# Altium integrated library Wurth_Elektronik_Passive_rev16a.IntLib: 1143 symbols (part 7 of 28)
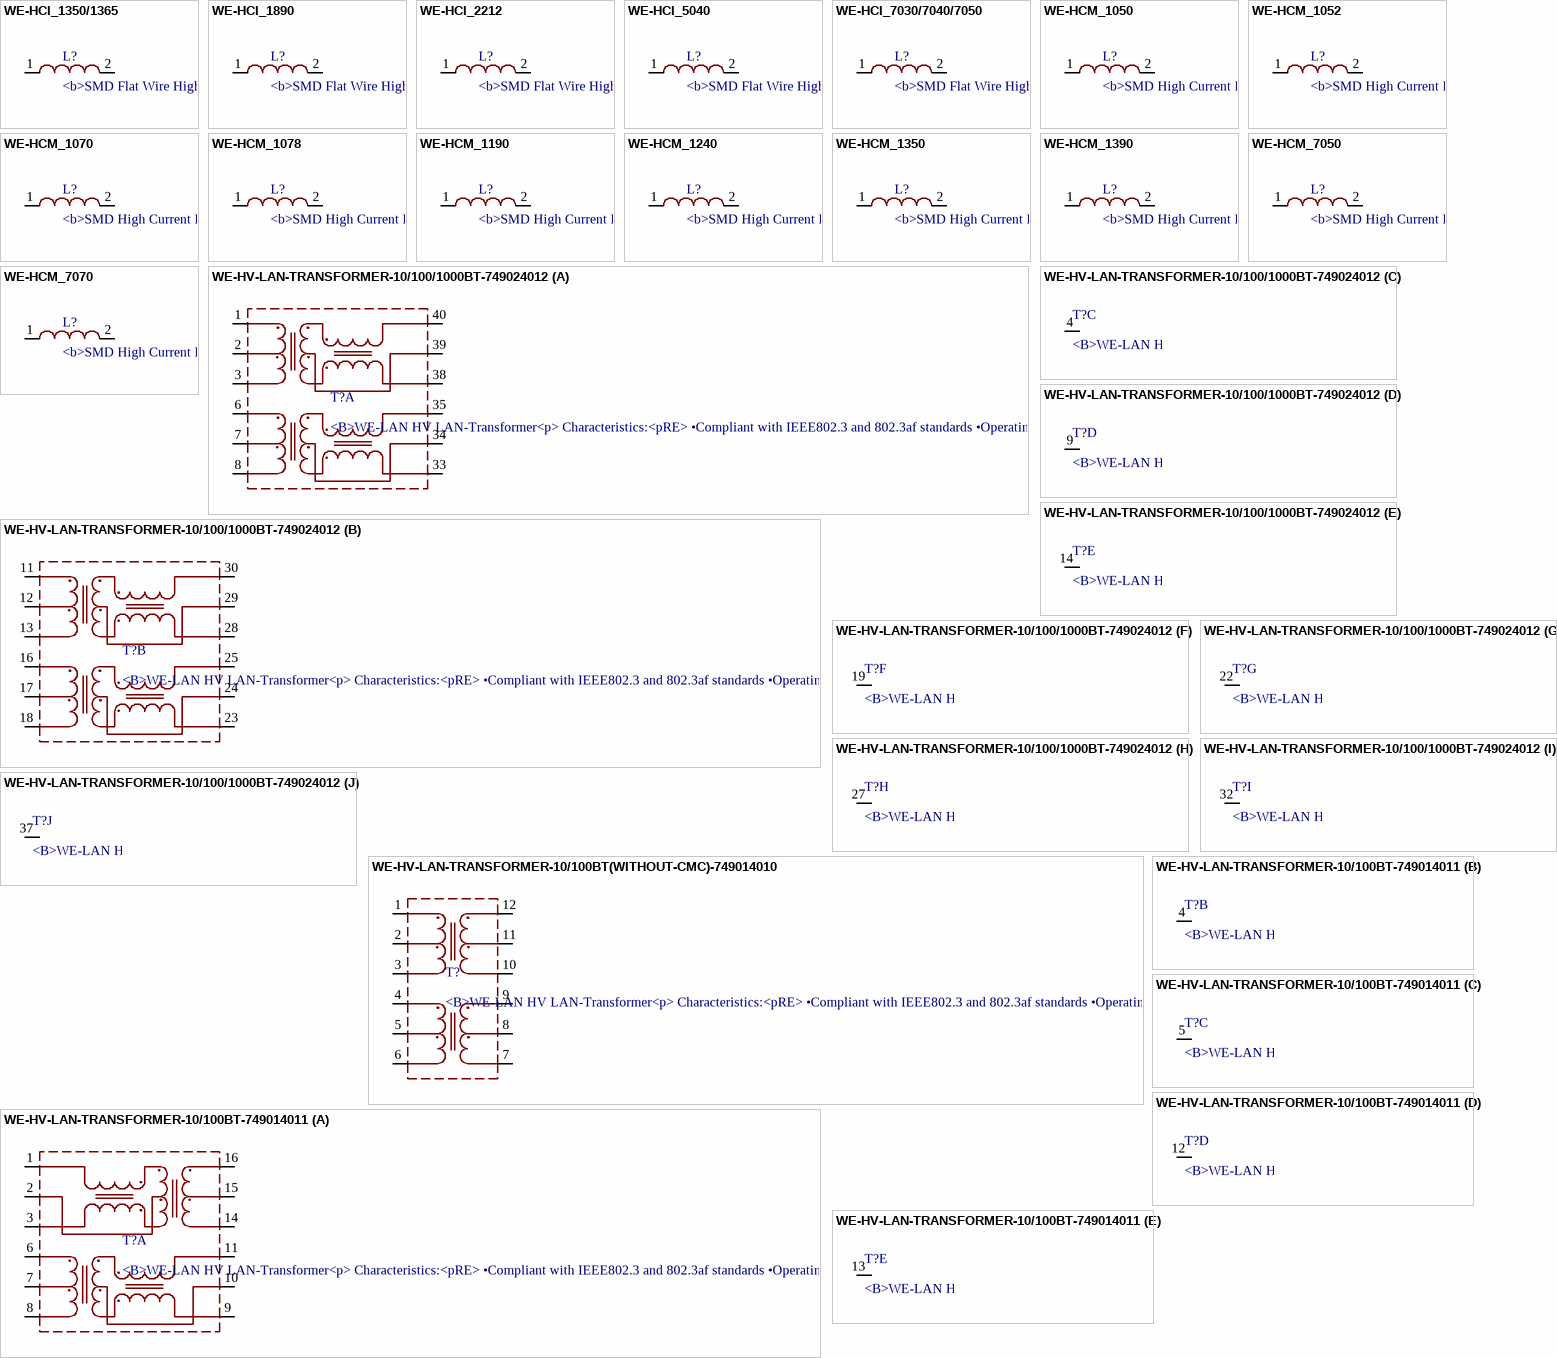
[diagram p64: symbols WE-HCI_1350/1365 to WE-HV-LAN-TRANSFORMER-10/100BT-749014011]

## WE-HCM_7070
designator L?, comment <b>SMD High Current Flat Wire Inductor / <br> / <br><b>Characteristics / <br> / <br></b></b> Lowest core losses (MnZn) / <br> / <br> High saturation current up to 81 A / <br> / <br> Extremly low RDC / <br> / <br> Magnetically shielded / <br> / <br> RDC tolerance ± 7% / <br> / <br> Operating temperature: –40 °C to +125 °C / <br> / <br><b>Applications / <br> / <br></b> Multiphase switching regulator / <br> / <br> CPU/RAM power supply / <br> / <br> Power PC / <br> / <br> Filter / <br> / <br> / <br><a href=http://katalog.we-online.de/media/images/eisos/IndHCM_pf2.jpg" title="Enlarge picture"> / <img src="http://katalog.we-online.de/media/images/eisos/IndHCM_pf2.jpg" width="320"></a><p> / Details see: <a href="http://katalog.we-online.de/en/pbs/WE-HCM?">http://katalog.we-online.de/en/pbs/WE-HCM?</a><p> / Updated by  Dan Xu 2014-07-07<br> / 2014 (C) Wurth Elektronik
footprint WE-HCM_7070
pins: 1, 2

## WE-HV-LAN-TRANSFORMER-10/100/1000BT-749024012
designator T?, comment <B>WE-LAN HV LAN-Transformer<p> / Characteristics:<pRE> / •Compliant with IEEE802.3 and 802.3af standards / •Operating temperature: 0 °C to +70 °C / •SMD / •4 kV Hipot test<PRE> / <B>Applications:<PRE></B> / •Ethernet / •Compliant with most IC's for Ethernet applications / like Intel, AMD, Conexant, Realtek, etc. / •Hub, Router, Switches, medical applications / <br><a href=http://katalog.we-online.de/media/images/eisos/UtLAN_pf2.jpg" title="Enlarge picture"> / <img src="http://katalog.we-online.de/media/images/eisos/UtLAN_pf2.jpg" width="320"></a><p> / Details see: <a href="http://katalog.we-online.de/en/pbs/WE-LAN/749024012?">http://katalog.we-online.de/en/pbs/WE-LAN/749024012?</a><p> / Updated by  Dan Xu 2014-07-08<br> / 2014 (C) Würth Elektronik
MANUFACTURER: Würth Elektronik eiSos GmbH; CREATED-BY: Christin Zierenner; COMPANY-URL: http://www.we-online.de; CREATED-DATE: July 2012; DATASHEET-URL: http://katalog.we-online.de/kataloge/eisos/media/pdf/749024012.pdf
footprint 749024012
part A pins: 1 D+, 2 TD, 3 D-, 6 D1+, 7 TD1, 8 D1-, 33 X1-, 34 TX1, 35 X1+, 38 X-, 39 TX, 40 X+
part B pins: 11 D+, 12 TD, 13 D-, 16 D1+, 17 TD1, 18 D1-, 23 X1-, 24 TX1, 25 X1+, 28 X-, 29 TX, 30 X+
part C pins: 4 NC
part D pins: 9 NC
part E pins: 14 NC
part F pins: 19 NC
part G pins: 22 NC
part H pins: 27 NC
part I pins: 32 NC
part J pins: 37 NC

## WE-HV-LAN-TRANSFORMER-10/100BT(WITHOUT-CMC)-749014010
designator T?, comment <B>WE-LAN HV LAN-Transformer<p> / Characteristics:<pRE> / •Compliant with IEEE802.3 and 802.3af standards / •Operating temperature: 0 °C to +70 °C / •SMD / •4 kV Hipot test<PRE> / <B>Applications:<PRE></B> / •Ethernet / •Compliant with most IC's for Ethernet applications / like Intel, AMD, Conexant, Realtek, etc. / •Hub, Router, Switches, medical applications / <br><a href=http://katalog.we-online.de/media/images/eisos/UtLAN_pf2.jpg" title="Enlarge picture"> / <img src="http://katalog.we-online.de/media/images/eisos/UtLAN_pf2.jpg" width="320"></a><p> / Details see: <a href="http://katalog.we-online.de/en/pbs/WE-LAN/749014010">http://katalog.we-online.de/en/pbs/WE-LAN/749014010?</a><p> / Updated by  Dan Xu 2014-07-08<br> / 2014 (C) Würth Elektronik
MANUFACTURER: Würth Elektronik eiSos GmbH; CREATED-BY: Christin Zierenner; COMPANY-URL: http://www.we-online.de; CREATED-DATE: July 2012; DATASHEET-URL: http://katalog.we-online.de/kataloge/eisos/media/pdf/749014010.pdf
footprint 749014010
pins: 1 D+, 2 TD, 3 D-, 4 D1+, 5 TD1, 6 D1-, 7 X1-, 8 TX1, 9 X1+, 10 X-, 11 TX, 12 X+

## WE-HV-LAN-TRANSFORMER-10/100BT-749014011
designator T?, comment <B>WE-LAN HV LAN-Transformer<p> / Characteristics:<pRE> / •Compliant with IEEE802.3 and 802.3af standards / •Operating temperature: 0 °C to +70 °C / •SMD / •4 kV Hipot test<PRE> / <B>Applications:<PRE></B> / •Ethernet / •Compliant with most IC's for Ethernet applications / like Intel, AMD, Conexant, Realtek, etc. / •Hub, Router, Switches, medical applications / <br><a href=http://katalog.we-online.de/media/images/eisos/UtLAN_pf2.jpg" title="Enlarge picture"> / <img src="http://katalog.we-online.de/media/images/eisos/UtLAN_pf2.jpg" width="320"></a><p> / Details see: <a href="http://katalog.we-online.de/en/pbs/WE-LAN/749014011">http://katalog.we-online.de/en/pbs/WE-LAN/749014011?</a><p> / Updated by  Dan Xu 2014-07-08<br> / 2014 (C) Würth Elektronik
MANUFACTURER: Würth Elektronik eiSos GmbH; CREATED-BY: Christin Zierenner; COMPANY-URL: http://www.we-online.de; CREATED-DATE: July 2012; DATASHEET-URL: http://katalog.we-online.de/kataloge/eisos/media/pdf/749014011.pdf
footprint 74901401X
part A pins: 1 RD+, 2 CRD, 3 RD-, 6 TD+, 7 CTD, 8 TD-, 9 TX-, 10 CTX, 11 TX+, 14 RX-, 15 CRX, 16 RX+
part B pins: 4 NC
part C pins: 5 NC
part D pins: 12 NC
part E pins: 13 NC

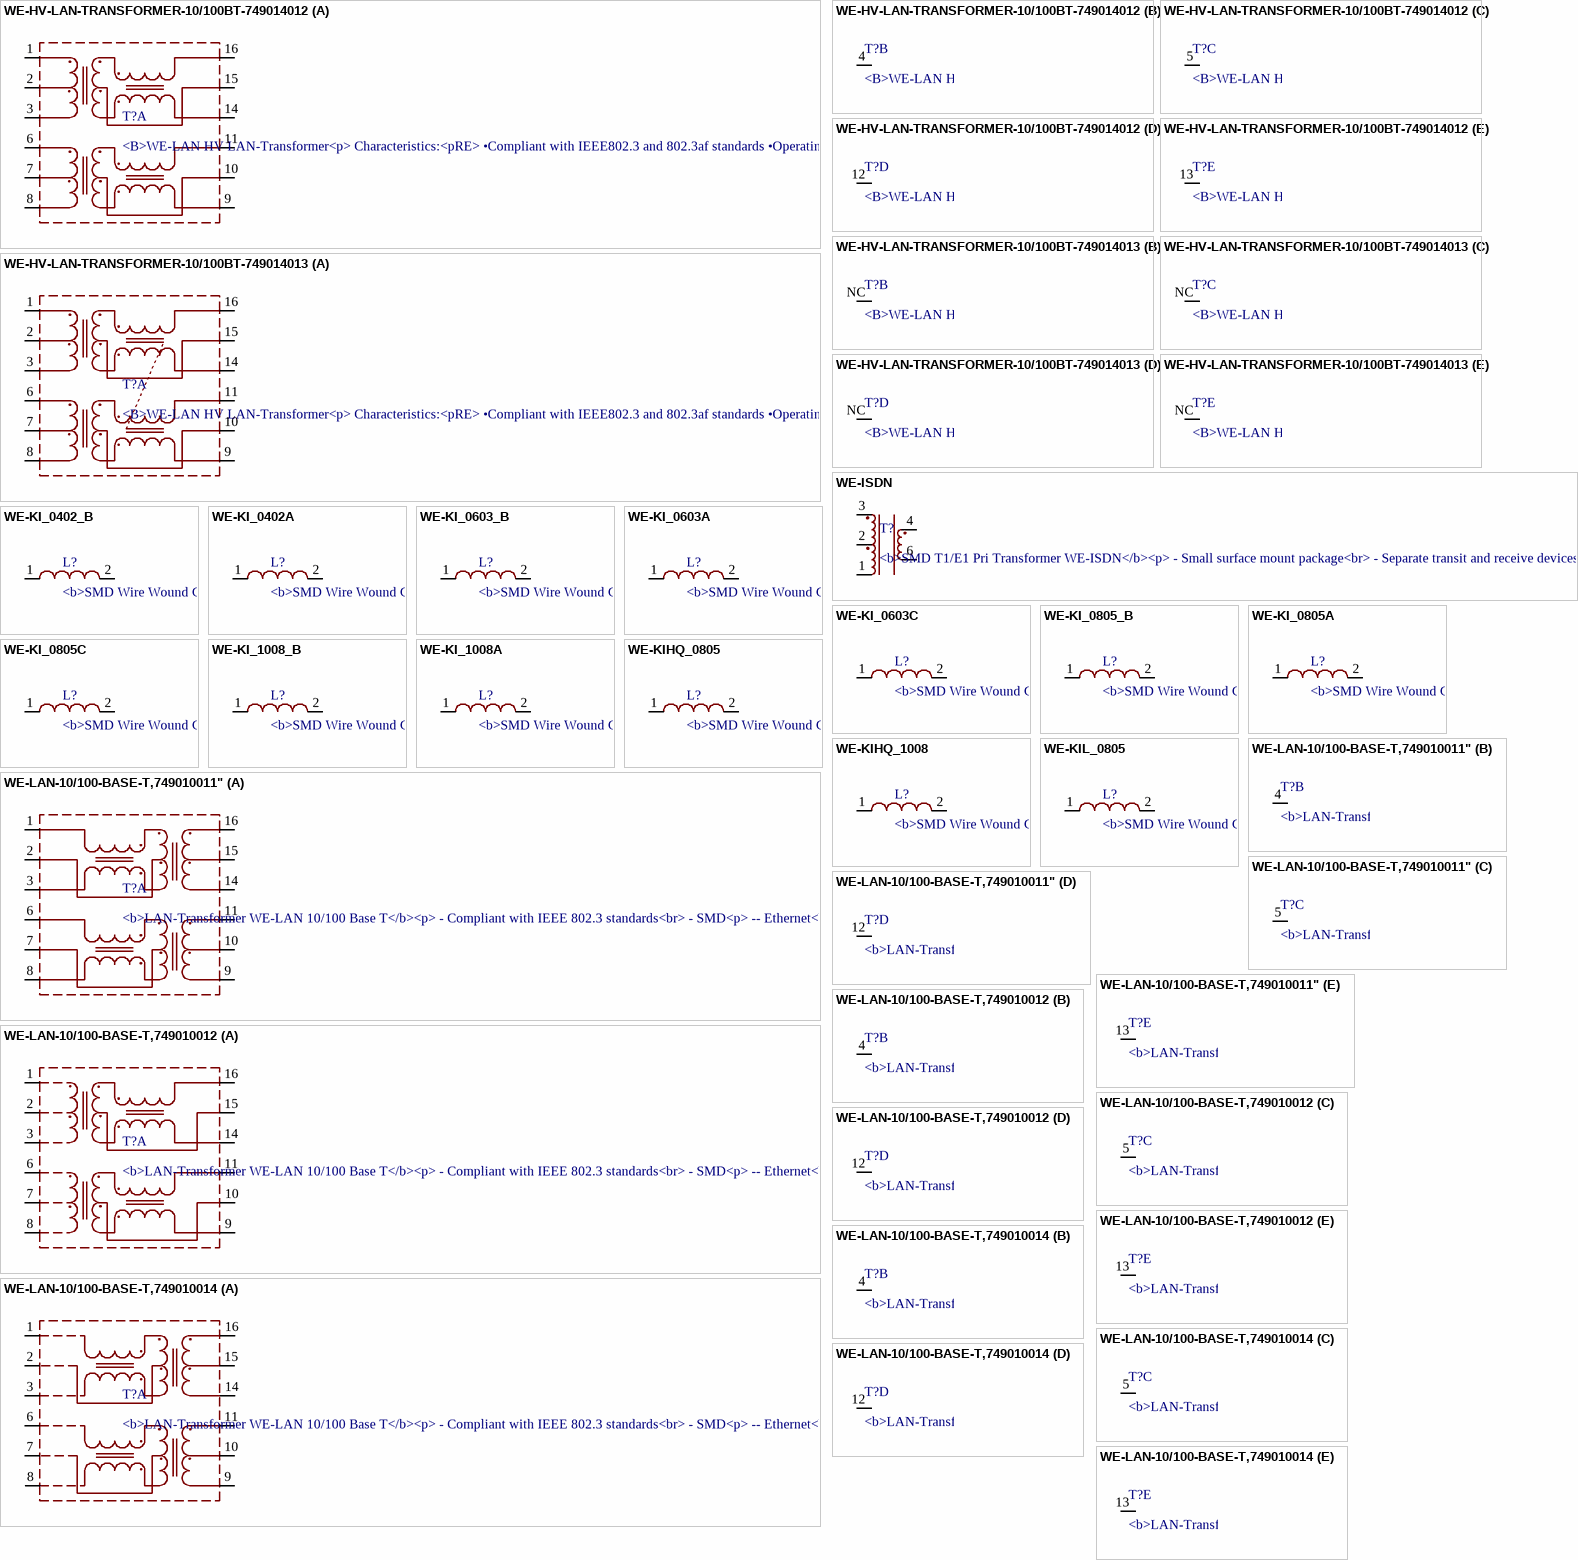
[diagram p10: symbols WE-HV-LAN-TRANSFORMER-10/100BT-749014012 to WE-LAN-10/100-BASE-T,749010014]

## WE-HV-LAN-TRANSFORMER-10/100BT-749014012
designator T?, comment <B>WE-LAN HV LAN-Transformer<p> / Characteristics:<pRE> / •Compliant with IEEE802.3 and 802.3af standards / •Operating temperature: 0 °C to +70 °C / •SMD / •6 kV Hipot test<PRE> / <B>Applications:<PRE></B> / •Ethernet / •Compliant with most IC's for Ethernet applications / like Intel, AMD, Conexant, Realtek, etc. / •Hub, Router, Switches, medical applications / <br><a href=http://katalog.we-online.de/media/images/eisos/UtLAN_pf2.jpg" title="Enlarge picture"> / <img src="http://katalog.we-online.de/media/images/eisos/UtLAN_pf2.jpg" width="320"></a><p> / Details see: <a href="http://katalog.we-online.de/en/pbs/WE-LAN/749014012">http://katalog.we-online.de/en/pbs/WE-LAN/749014012?</a><p> / Updated by  Dan Xu 2014-07-08<br> / 2014 (C) Würth Elektronik
MANUFACTURER: Würth Elektronik eiSos GmbH; CREATED-BY: Christin Zierenner; COMPANY-URL: http://www.we-online.de; CREATED-DATE: July 2012; DATASHEET-URL: http://katalog.we-online.de/kataloge/eisos/media/pdf/749014012.pdf
footprint 74901401X
part A pins: 1 RD+, 2 CRD, 3 RD-, 6 TD+, 7 CTD, 8 TD-, 9 TX-, 10 CTX, 11 TX+, 14 RX-, 15 CRX, 16 RX+
part B pins: 4 NC
part C pins: 5 NC
part D pins: 12 NC
part E pins: 13 NC

## WE-HV-LAN-TRANSFORMER-10/100BT-749014013
designator T?, comment <B>WE-LAN HV LAN-Transformer<p> / Characteristics:<pRE> / •Compliant with IEEE802.3 and 802.3af standards / •Operating temperature: 0 °C to +70 °C / •SMD / •4 kV Hipot test<PRE> / <B>Applications:<PRE></B> / •Ethernet / •Compliant with most IC's for Ethernet applications / like Intel, AMD, Conexant, Realtek, etc. / •Hub, Router, Switches, medical applications / <br><a href=http://katalog.we-online.de/media/images/eisos/UtLAN_pf2.jpg" title="Enlarge picture"> / <img src="http://katalog.we-online.de/media/images/eisos/UtLAN_pf2.jpg" width="320"></a><p> / Details see: <a href="http://katalog.we-online.de/en/pbs/WE-LAN/749014013">http://katalog.we-online.de/en/pbs/WE-LAN/749014013?</a><p> / Updated by  Dan Xu 2014-07-08<br> / 2014 (C) Würth Elektronik
MANUFACTURER: Würth Elektronik eiSos GmbH; CREATED-BY: Christin Zierenner; COMPANY-URL: http://www.we-online.de; CREATED-DATE: July 2012; DATASHEET-URL: http://katalog.we-online.de/kataloge/eisos/media/pdf/749014013.pdf
footprint 74901401X
part A pins: 1 RD+, 2 CRD, 3 RD-, 6 TD+, 7 CTD, 8 TD-, 9 TX-, 10 CTX, 11 TX+, 14 RX-, 15 CRX, 16 RX+
part B pins: NC
part C pins: NC
part D pins: NC
part E pins: NC

## WE-ISDN
designator T?, comment <b>SMD T1/E1 Pri Transformer WE-ISDN</b><p> / - Small surface mount package<br> / - Separate transit and receive devices for layout flexibility<br> / - Low cross talk: excellent layout density<br> / - Meets ITU G. 703 ISDN-Primary rate recommendations<br> / - 1500 VAC dielectric strength<br> / - 100 Ohm line<br><br> / -- ISDN<br> / -- Matched to IC manufacturers transceivers / <br><a href=http://katalog.we-online.de/media/images/ctm/MID-ISDN_pf2.jpg" title="Enlarge picture"> / <img src="http://katalog.we-online.de/media/images/ctm/MID-ISDN_pf2.jpg" width="320"></a><p> / Details see: <a href="http://katalog.we-online.de/en/ctm/MID-ISDN?">http://katalog.we-online.de/en/ctm/MID-ISDN?</a><p> / Updated by  Dan Xu 2014-07-08<br> / 2014 (C) Würth Elektronik
footprint WE-ISDN
pins: 1, 2, 3, 4, 6

## WE-KI_0402_B
designator L?, comment <b>SMD Wire Wound Ceramic Inductor / <br> / <br> / <br><b> Characteristics / <br> / <br></b></b> WE-KI series offers you an excellent Q factor and highest possible self resonant frequencies up to 12.5 GHz / <br> / <br> Inductance tolerances: 5% (2% on request) / <br> / <br> High thermal stability / <br> / <br> Operating temperature: –40°C to +125°C / <br> / <br> / <br><b> Applications / <br> / <br></b> Especially developed for high frequency applications / <br> / <br> RF transceiver/communications / <br> / <br> Bluetooth / <br> / <br> Wireless LAN / <br> / <br> / <br><a href=http://katalog.we-online.de/media/images/eisos/RfKI_pf2.jpg" title="Enlarge picture"> / <img src="http://katalog.we-online.de/media/images/eisos/RfKI_pf2.jpg" width="320"></a><p> / Details see: <a href="http://katalog.we-online.de/en/pbs/WE-KI">http://katalog.we-online.de/en/pbs/WE-KI</a><p> / Updated by  Dan Xu 2014-07-08<br> / 2014 (C) Wurth Elektronik
footprint WE-KI_0402_B
pins: 1, 2

## WE-KI_0402A
designator L?, comment <b>SMD Wire Wound Ceramic Inductor / <br> / <br> / <br><b> Characteristics / <br> / <br></b></b> WE-KI series offers you an excellent Q factor and highest possible self resonant frequencies up to 12.5 GHz / <br> / <br> Inductance tolerances: 5% (2% on request) / <br> / <br> High thermal stability / <br> / <br> Operating temperature: –40°C to +125°C / <br> / <br> / <br><b> Applications / <br> / <br></b> Especially developed for high frequency applications / <br> / <br> RF transceiver/communications / <br> / <br> Bluetooth / <br> / <br> Wireless LAN / <br> / <br> / <br><a href=http://katalog.we-online.de/media/images/eisos/RfKI_pf2.jpg" title="Enlarge picture"> / <img src="http://katalog.we-online.de/media/images/eisos/RfKI_pf2.jpg" width="320"></a><p> / Details see: <a href="http://katalog.we-online.de/en/pbs/WE-KI">http://katalog.we-online.de/en/pbs/WE-KI</a><p> / Updated by  Dan Xu 2014-07-08<br> / 2014 (C) Wurth Elektronik
footprint WE-KI_0402A
pins: 1, 2

## WE-KI_0603_B
designator L?, comment <b>SMD Wire Wound Ceramic Inductor / <br> / <br> / <br><b> Characteristics / <br> / <br></b></b> WE-KI series offers you an excellent Q factor and highest possible self resonant frequencies up to 12.5 GHz / <br> / <br> Inductance tolerances: 5% (2% on request) / <br> / <br> High thermal stability / <br> / <br> Operating temperature: –40°C to +125°C / <br> / <br> / <br><b> Applications / <br> / <br></b> Especially developed for high frequency applications / <br> / <br> RF transceiver/communications / <br> / <br> Bluetooth / <br> / <br> Wireless LAN / <br> / <br> / <br><a href=http://katalog.we-online.de/media/images/eisos/RfKI_pf2.jpg" title="Enlarge picture"> / <img src="http://katalog.we-online.de/media/images/eisos/RfKI_pf2.jpg" width="320"></a><p> / Details see: <a href="http://katalog.we-online.de/en/pbs/WE-KI">http://katalog.we-online.de/en/pbs/WE-KI</a><p> / Updated by  Dan Xu 2014-07-08<br> / 2014 (C) Wurth Elektronik
footprint WE-KI_0603_B
pins: 1, 2

## WE-KI_0603A
designator L?, comment <b>SMD Wire Wound Ceramic Inductor / <br> / <br> / <br><b> Characteristics / <br> / <br></b></b> WE-KI series offers you an excellent Q factor and highest possible self resonant frequencies up to 12.5 GHz / <br> / <br> Inductance tolerances: 5% (2% on request) / <br> / <br> High thermal stability / <br> / <br> Operating temperature: –40°C to +125°C / <br> / <br> / <br><b> Applications / <br> / <br></b> Especially developed for high frequency applications / <br> / <br> RF transceiver/communications / <br> / <br> Bluetooth / <br> / <br> Wireless LAN / <br> / <br> / <br><a href=http://katalog.we-online.de/media/images/eisos/RfKI_pf2.jpg" title="Enlarge picture"> / <img src="http://katalog.we-online.de/media/images/eisos/RfKI_pf2.jpg" width="320"></a><p> / Details see: <a href="http://katalog.we-online.de/en/pbs/WE-KI">http://katalog.we-online.de/en/pbs/WE-KI</a><p> / Updated by  Dan Xu 2014-07-08<br> / 2014 (C) Wurth Elektronik
footprint WE-KI_0603A
pins: 1, 2

## WE-KI_0603C
designator L?, comment <b>SMD Wire Wound Ceramic Inductor / <br> / <br> / <br><b> Characteristics / <br> / <br></b></b> WE-KI series offers you an excellent Q factor and highest possible self resonant frequencies up to 12.5 GHz / <br> / <br> Inductance tolerances: 5% (2% on request) / <br> / <br> High thermal stability / <br> / <br> Operating temperature: –40°C to +125°C / <br> / <br> / <br><b> Applications / <br> / <br></b> Especially developed for high frequency applications / <br> / <br> RF transceiver/communications / <br> / <br> Bluetooth / <br> / <br> Wireless LAN / <br> / <br> / <br><a href=http://katalog.we-online.de/media/images/eisos/RfKI_pf2.jpg" title="Enlarge picture"> / <img src="http://katalog.we-online.de/media/images/eisos/RfKI_pf2.jpg" width="320"></a><p> / Details see: <a href="http://katalog.we-online.de/en/pbs/WE-KI">http://katalog.we-online.de/en/pbs/WE-KI</a><p> / Updated by  Dan Xu 2014-07-08<br> / 2014 (C) Wurth Elektronik
footprint WE-KI_0603C
pins: 1, 2

## WE-KI_0805_B
designator L?, comment <b>SMD Wire Wound Ceramic Inductor / <br> / <br> / <br><b> Characteristics / <br> / <br></b></b> WE-KI series offers you an excellent Q factor and highest possible self resonant frequencies up to 12.5 GHz / <br> / <br> Inductance tolerances: 5% (2% on request) / <br> / <br> High thermal stability / <br> / <br> Operating temperature: –40°C to +125°C / <br> / <br> / <br><b> Applications / <br> / <br></b> Especially developed for high frequency applications / <br> / <br> RF transceiver/communications / <br> / <br> Bluetooth / <br> / <br> Wireless LAN / <br> / <br> / <br><a href=http://katalog.we-online.de/media/images/eisos/RfKI_pf2.jpg" title="Enlarge picture"> / <img src="http://katalog.we-online.de/media/images/eisos/RfKI_pf2.jpg" width="320"></a><p> / Details see: <a href="http://katalog.we-online.de/en/pbs/WE-KI">http://katalog.we-online.de/en/pbs/WE-KI</a><p> / Updated by  Dan Xu 2014-07-08<br> / 2014 (C) Wurth Elektronik
footprint WE-KI_0805_B
pins: 1, 2

## WE-KI_0805A
designator L?, comment <b>SMD Wire Wound Ceramic Inductor / <br> / <br> / <br><b> Characteristics / <br> / <br></b></b> WE-KI series offers you an excellent Q factor and highest possible self resonant frequencies up to 12.5 GHz / <br> / <br> Inductance tolerances: 5% (2% on request) / <br> / <br> High thermal stability / <br> / <br> Operating temperature: –40°C to +125°C / <br> / <br> / <br><b> Applications / <br> / <br></b> Especially developed for high frequency applications / <br> / <br> RF transceiver/communications / <br> / <br> Bluetooth / <br> / <br> Wireless LAN / <br> / <br> / <br><a href=http://katalog.we-online.de/media/images/eisos/RfKI_pf2.jpg" title="Enlarge picture"> / <img src="http://katalog.we-online.de/media/images/eisos/RfKI_pf2.jpg" width="320"></a><p> / Details see: <a href="http://katalog.we-online.de/en/pbs/WE-KI">http://katalog.we-online.de/en/pbs/WE-KI</a><p> / Updated by  Dan Xu 2014-07-08<br> / 2014 (C) Wurth Elektronik
footprint WE-KI_0805A
pins: 1, 2

## WE-KI_0805C
designator L?, comment <b>SMD Wire Wound Ceramic Inductor / <br> / <br> / <br><b> Characteristics / <br> / <br></b></b> WE-KI series offers you an excellent Q factor and highest possible self resonant frequencies up to 12.5 GHz / <br> / <br> Inductance tolerances: 5% (2% on request) / <br> / <br> High thermal stability / <br> / <br> Operating temperature: –40°C to +125°C / <br> / <br> / <br><b> Applications / <br> / <br></b> Especially developed for high frequency applications / <br> / <br> RF transceiver/communications / <br> / <br> Bluetooth / <br> / <br> Wireless LAN / <br> / <br> / <br><a href=http://katalog.we-online.de/media/images/eisos/RfKI_pf2.jpg" title="Enlarge picture"> / <img src="http://katalog.we-online.de/media/images/eisos/RfKI_pf2.jpg" width="320"></a><p> / Details see: <a href="http://katalog.we-online.de/en/pbs/WE-KI">http://katalog.we-online.de/en/pbs/WE-KI</a><p> / Updated by  Dan Xu 2014-07-08<br> / 2014 (C) Wurth Elektronik
footprint WE-KI_0805C
pins: 1, 2

## WE-KI_1008_B
designator L?, comment <b>SMD Wire Wound Ceramic Inductor / <br> / <br> / <br><b> Characteristics / <br> / <br></b></b> WE-KI series offers you an excellent Q factor and highest possible self resonant frequencies up to 12.5 GHz / <br> / <br> Inductance tolerances: 5% (2% on request) / <br> / <br> High thermal stability / <br> / <br> Operating temperature: –40°C to +125°C / <br> / <br> / <br><b> Applications / <br> / <br></b> Especially developed for high frequency applications / <br> / <br> RF transceiver/communications / <br> / <br> Bluetooth / <br> / <br> Wireless LAN / <br> / <br> / <br><a href=http://katalog.we-online.de/media/images/eisos/RfKI_pf2.jpg" title="Enlarge picture"> / <img src="http://katalog.we-online.de/media/images/eisos/RfKI_pf2.jpg" width="320"></a><p> / Details see: <a href="http://katalog.we-online.de/en/pbs/WE-KI">http://katalog.we-online.de/en/pbs/WE-KI</a><p> / Updated by  Dan Xu 2014-07-08<br> / 2014 (C) Wurth Elektronik
footprint WE-KI_1008_B
pins: 1, 2

## WE-KI_1008A
designator L?, comment <b>SMD Wire Wound Ceramic Inductor / <br> / <br> / <br><b> Characteristics / <br> / <br></b></b> WE-KI series offers you an excellent Q factor and highest possible self resonant frequencies up to 12.5 GHz / <br> / <br> Inductance tolerances: 5% (2% on request) / <br> / <br> High thermal stability / <br> / <br> Operating temperature: –40°C to +125°C / <br> / <br> / <br><b> Applications / <br> / <br></b> Especially developed for high frequency applications / <br> / <br> RF transceiver/communications / <br> / <br> Bluetooth / <br> / <br> Wireless LAN / <br> / <br> / <br><a href=http://katalog.we-online.de/media/images/eisos/RfKI_pf2.jpg" title="Enlarge picture"> / <img src="http://katalog.we-online.de/media/images/eisos/RfKI_pf2.jpg" width="320"></a><p> / Details see: <a href="http://katalog.we-online.de/en/pbs/WE-KI">http://katalog.we-online.de/en/pbs/WE-KI</a><p> / Updated by  Dan Xu 2014-07-08<br> / 2014 (C) Wurth Elektronik
footprint WE-KI_1008A
pins: 1, 2

## WE-KIHQ_0805
designator L?, comment <b>SMD Wire Wound Ceramic Inductor WE-KIHQ</b><br><br> / - High current<br> / - Highest Quality factor in size 0805 - up to 98<br> / - High thermal stability<br> / - High SRF<br><br> / -- Bluetooth<br> / -- Wireless LAN<br> / -- RF oscillation circuit<br> / -- IF impedance matching<br> / -- IG choke
footprint WE-KI_0805_B
pins: 1, 2

## WE-KIHQ_1008
designator L?, comment <b>SMD Wire Wound Ceramic Inductor WE-KIHQ</b><br><br> / - High current<br> / - Highest Quality factor in size 0805 - up to 98<br> / - High thermal stability<br> / - High SRF<br><br> / -- Bluetooth<br> / -- Wireless LAN<br> / -- RF oscillation circuit<br> / -- IF impedance matching<br> / -- IG choke
footprint WE-KI_1008_B
pins: 1, 2

## WE-KIL_0805
designator L?, comment <b>SMD Wire Wound Ceramic Inductor WE-KIL</b><br><br> / - Low profile<br> / - High Q values<br><br> / -- Bluetooth <br> / -- Wireless LAN<br> / -- RF oscillation circuit<br> / -- IF impedance matching
footprint WE-KI_0805_B
pins: 1, 2

## WE-LAN-10/100-BASE-T,749010011"
designator T?, comment <b>LAN-Transformer WE-LAN 10/100 Base T</b><p> / - Compliant with IEEE 802.3 standards<br> / - SMD<p> / -- Ethernet<br> / -- Power over Ethernet<br> / -- 1 Gigabit Ethernet<br> / -- Compliant with most IC's for ethernet applications like Intel, AMD, Globespan and Realtek<br> / -- Hub, Router, Switch / <br><a href=http://katalog.we-online.de/media/images/eisos/UtLAN_pf2.jpg" title="Enlarge picture"> / <img src="http://katalog.we-online.de/media/images/eisos/UtLAN_pf2.jpg" width="320"></a><p> / Details see: <a href="http://katalog.we-online.de/en/pbs/WE-LAN/S/749010011?">http://katalog.we-online.de/en/pbs/WE-LAN/S/749010011?</a><p> / Updated by  Dan Xu 2014-07-08<br> / 2014 (C) Würth Elektronik
MANUFACTURER: Würth Elektronik eiSos GmbH; CREATED-BY: Christin Zierenner; COMPANY-URL: http://www.we-online.de; CREATED-DATE: June 2012; DATASHEET-URL: http://katalog.we-online.de/kataloge/eisos/media/pdf/749010011.pdf
footprint 749010011
part A pins: 1 RD+, 2 RCT, 3 RD-, 6 TD+, 7 TCT, 8 TD-, 9 TX-, 10 TXCT, 11 TX+, 14 RX-, 15 RXCT, 16 RX+
part B pins: 4 NC
part C pins: 5 NC
part D pins: 12 NC
part E pins: 13 NC

## WE-LAN-10/100-BASE-T,749010012
designator T?, comment <b>LAN-Transformer WE-LAN 10/100 Base T</b><p> / - Compliant with IEEE 802.3 standards<br> / - SMD<p> / -- Ethernet<br> / -- Power over Ethernet<br> / -- 1 Gigabit Ethernet<br> / -- Compliant with most IC's for ethernet applications like Intel, AMD, Globespan and Realtek<br> / -- Hub, Router, Switch / <br><a href=http://katalog.we-online.de/media/images/eisos/UtLAN_pf2.jpg" title="Enlarge picture"> / <img src="http://katalog.we-online.de/media/images/eisos/UtLAN_pf2.jpg" width="320"></a><p> / Details see: <a href="http://katalog.we-online.de/en/pbs/WE-LAN/S/749010012?">http://katalog.we-online.de/en/pbs/WE-LAN/S/749010012?</a><p> / Updated by  Dan Xu 2014-07-08<br> / 2014 (C) Würth Elektronik
MANUFACTURER: Würth Elektronik eiSos GmbH; CREATED-BY: Christin Zierenner; COMPANY-URL: http://www.we-online.de; CREATED-DATE: June 2012; DATASHEET-URL: http://katalog.we-online.de/kataloge/eisos/media/pdf/749010012.pdf
footprint 749010012
part A pins: 1 RD+, 2 RCT, 3 RD-, 6 TD+, 7 TCT, 8 TD-, 9 TX-, 10 TXCT, 11 TX+, 14 RX-, 15 RXCT, 16 RX+
part B pins: 4 NC
part C pins: 5 NC
part D pins: 12 NC
part E pins: 13 NC

## WE-LAN-10/100-BASE-T,749010014
designator T?, comment <b>LAN-Transformer WE-LAN 10/100 Base T</b><p> / - Compliant with IEEE 802.3 standards<br> / - SMD<p> / -- Ethernet<br> / -- Power over Ethernet<br> / -- 1 Gigabit Ethernet<br> / -- Compliant with most IC's for ethernet applications like Intel, AMD, Globespan and Realtek<br> / -- Hub, Router, Switch / <br><a href=http://katalog.we-online.de/media/images/eisos/UtLAN_pf2.jpg" title="Enlarge picture"> / <img src="http://katalog.we-online.de/media/images/eisos/UtLAN_pf2.jpg" width="320"></a><p> / Details see: <a href="http://katalog.we-online.de/en/pbs/WE-LAN/S/749010014?">http://katalog.we-online.de/en/pbs/WE-LAN/S/749010014?</a><p> / Updated by  Dan Xu 2014-07-08<br> / 2014 (C) Würth Elektronik
MANUFACTURER: Würth Elektronik eiSos GmbH; CREATED-BY: Christin Zierenner; COMPANY-URL: http://www.we-online.de; CREATED-DATE: June 2012; DATASHEET-URL: http://katalog.we-online.de/kataloge/eisos/media/pdf/749010014.pdf
footprint 749010014
part A pins: 1 RX+, 2 CRX, 3 RX-, 6 TX+, 7 CTX, 8 TX-, 9 TD-, 10 CTD, 11 TD+, 14 RD-, 15 CRD, 16 RD+
part B pins: 4 NC
part C pins: 5 NC
part D pins: 12 NC
part E pins: 13 NC

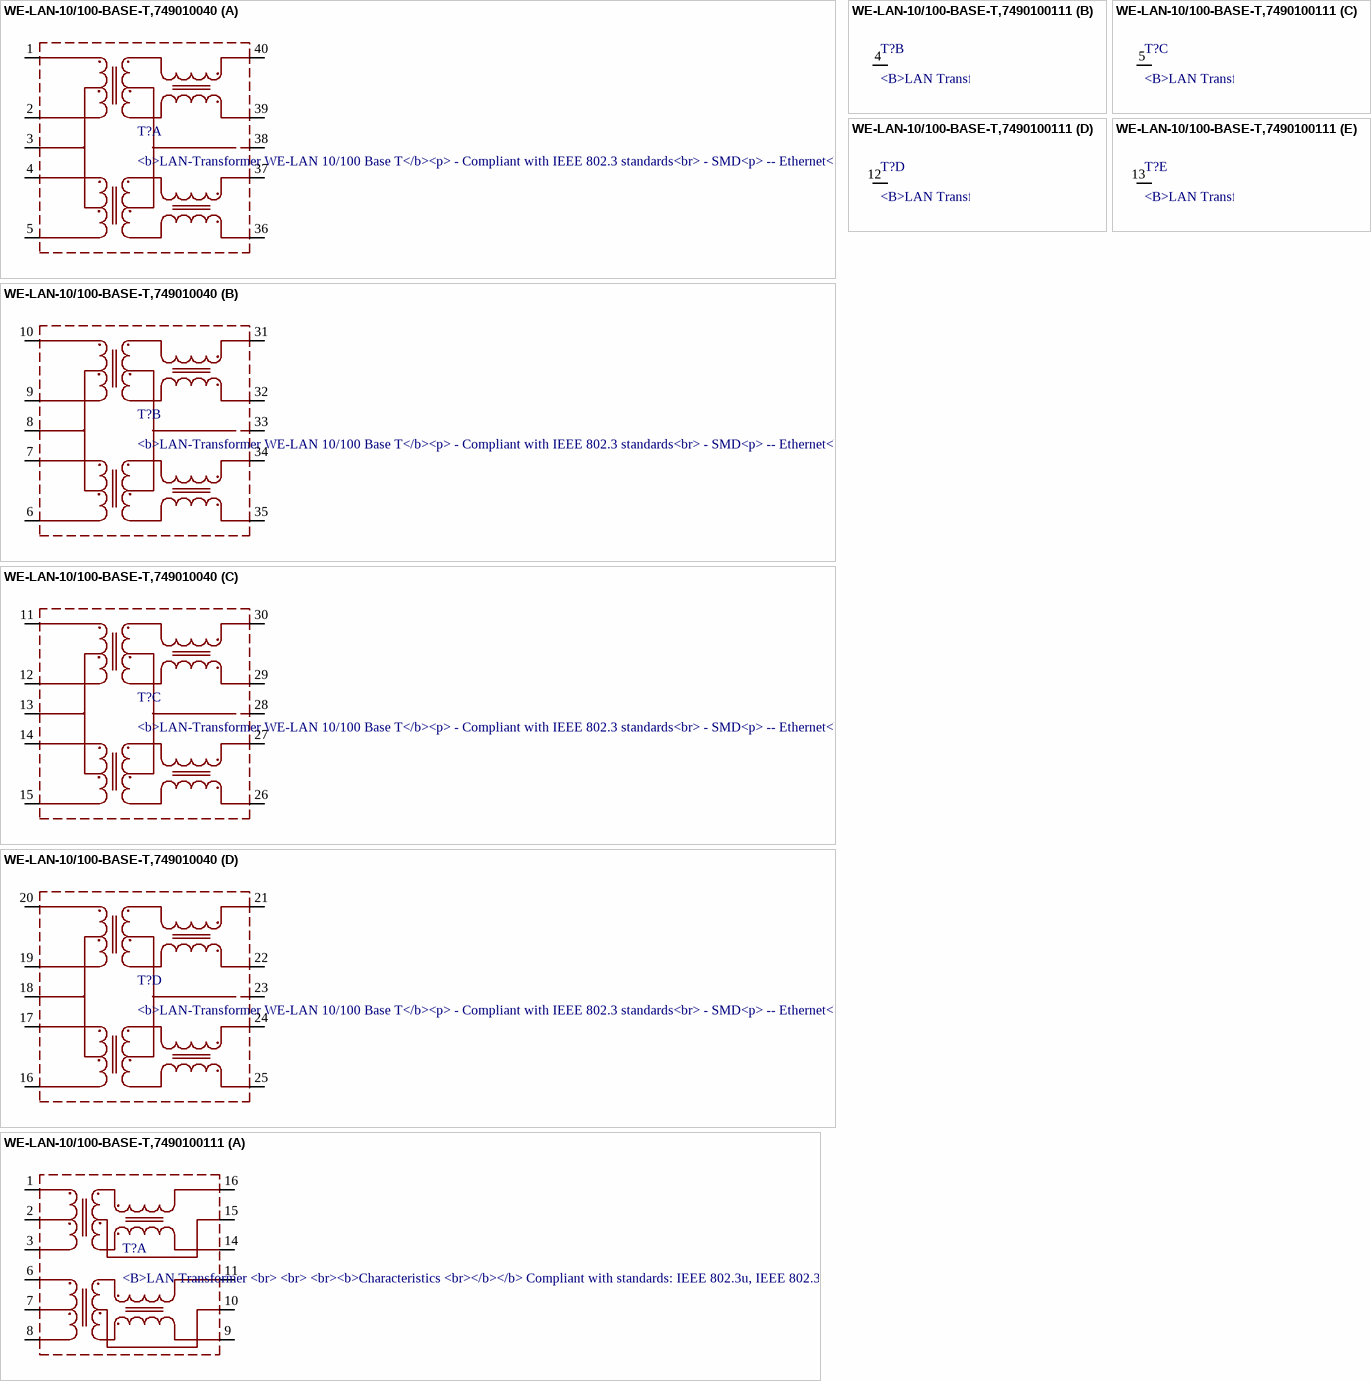
[diagram p11: symbols WE-LAN-10/100-BASE-T,749010040 to WE-LAN-10/100-BASE-T,7490100111]

## WE-LAN-10/100-BASE-T,749010040
designator T?, comment <b>LAN-Transformer WE-LAN 10/100 Base T</b><p> / - Compliant with IEEE 802.3 standards<br> / - SMD<p> / -- Ethernet<br> / -- Power over Ethernet<br> / -- 1 Gigabit Ethernet<br> / -- Compliant with most IC's for ethernet applications like Intel, AMD, Globespan and Realtek<br> / -- Hub, Router, Switch / <br><a href=http://katalog.we-online.de/media/images/eisos/UtLAN_pf2.jpg" title="Enlarge picture"> / <img src="http://katalog.we-online.de/media/images/eisos/UtLAN_pf2.jpg" width="320"></a><p> / Details see: <a href="http://katalog.we-online.de/en/pbs/WE-LAN/S/749010040?">http://katalog.we-online.de/en/pbs/WE-LAN/S/749010040?</a><p> / Updated by  Dan Xu 2014-07-08<br> / 2014 (C) Würth Elektronik
MANUFACTURER: Würth Elektronik eiSos GmbH; CREATED-BY: Christin Zierenner; COMPANY-URL: http://www.we-online.de; CREATED-DATE: June 2012; DATASHEET-URL: http://katalog.we-online.de/kataloge/eisos/media/pdf/749010040.pdf
footprint 749010040
part A pins: 1 TD+, 2 TD-, 3 CTVDD, 4 RD+, 5 RD-, 36 RX-, 37 RX+, 38 CMGND, 39 TX-, 40 TX+
part B pins: 6 RD-, 7 RD+, 8 CTVDD, 9 TD-, 10 TD+, 31 TX+, 32 TX-, 33 CMGND, 34 RX+, 35 RX-
part C pins: 11 TD+, 12 TD-, 13 CTVDD, 14 RD+, 15 RD-, 26 RX-, 27 RX+, 28 CMGND, 29 TX-, 30 TX+
part D pins: 16 RD-, 17 RD+, 18 CTVDD, 19 TD-, 20 TD+, 21 TX+, 22 TX-, 23 CMGND, 24 RX+, 25 RX-

## WE-LAN-10/100-BASE-T,7490100111
designator T?, comment <B>LAN Transformer / <br> / <br> / <br><b>Characteristics / <br></b></b> Compliant with standards: IEEE 802.3u, IEEE 802.3ab, IEEE 802.3af and IEEE 802.3at / <br> / <br> SMD / <br> / <br> / <br><b>Applications / <br> / <br></b> Ethernet speed up to 10 Gbit/s / <br> / <br> Power over Ethernet PoE and PoE+ / <br> / <br> Compliant with most IC’s for Ethernet applications such as Intel, AMD, Globespan and Realtek / <br> / <br> Applications: Hub, Router, Switches / <br> / <br> / <br><a href=http://katalog.we-online.de/media/images/eisos/UtLAN_pf2.jpg" title="Enlarge picture"> / <img src="http://katalog.we-online.de/media/images/eisos/UtLAN_pf2.jpg" width="320"></a><p> / Details see: <a href="http://katalog.we-online.de/en/pbs/WE-LAN/?">http://katalog.we-online.de/en/pbs/WE-LAN/?</a><p> / Updated by  Dan Xu 2014-07-08<br> / 2014 (C) Wurth Elektronik
MANUFACTURER: Würth Elektronik eiSos GmbH; CREATED-BY: Christin Zierenner; COMPANY-URL: http://www.we-online.de; CREATED-DATE: June 2012; DATASHEET-URL: http://katalog.we-online.de/kataloge/eisos/media/pdf/7490100111.pdf
footprint 7490100111
part A pins: 1 TD+, 2 CTD, 3 TD-, 6 RD+, 7 CRD, 8 RD-, 9 RX-, 10 CRX, 11 RX+, 14 TX-, 15 CTX, 16 TX+
part B pins: 4 NC
part C pins: 5 NC
part D pins: 12 NC
part E pins: 13 NC

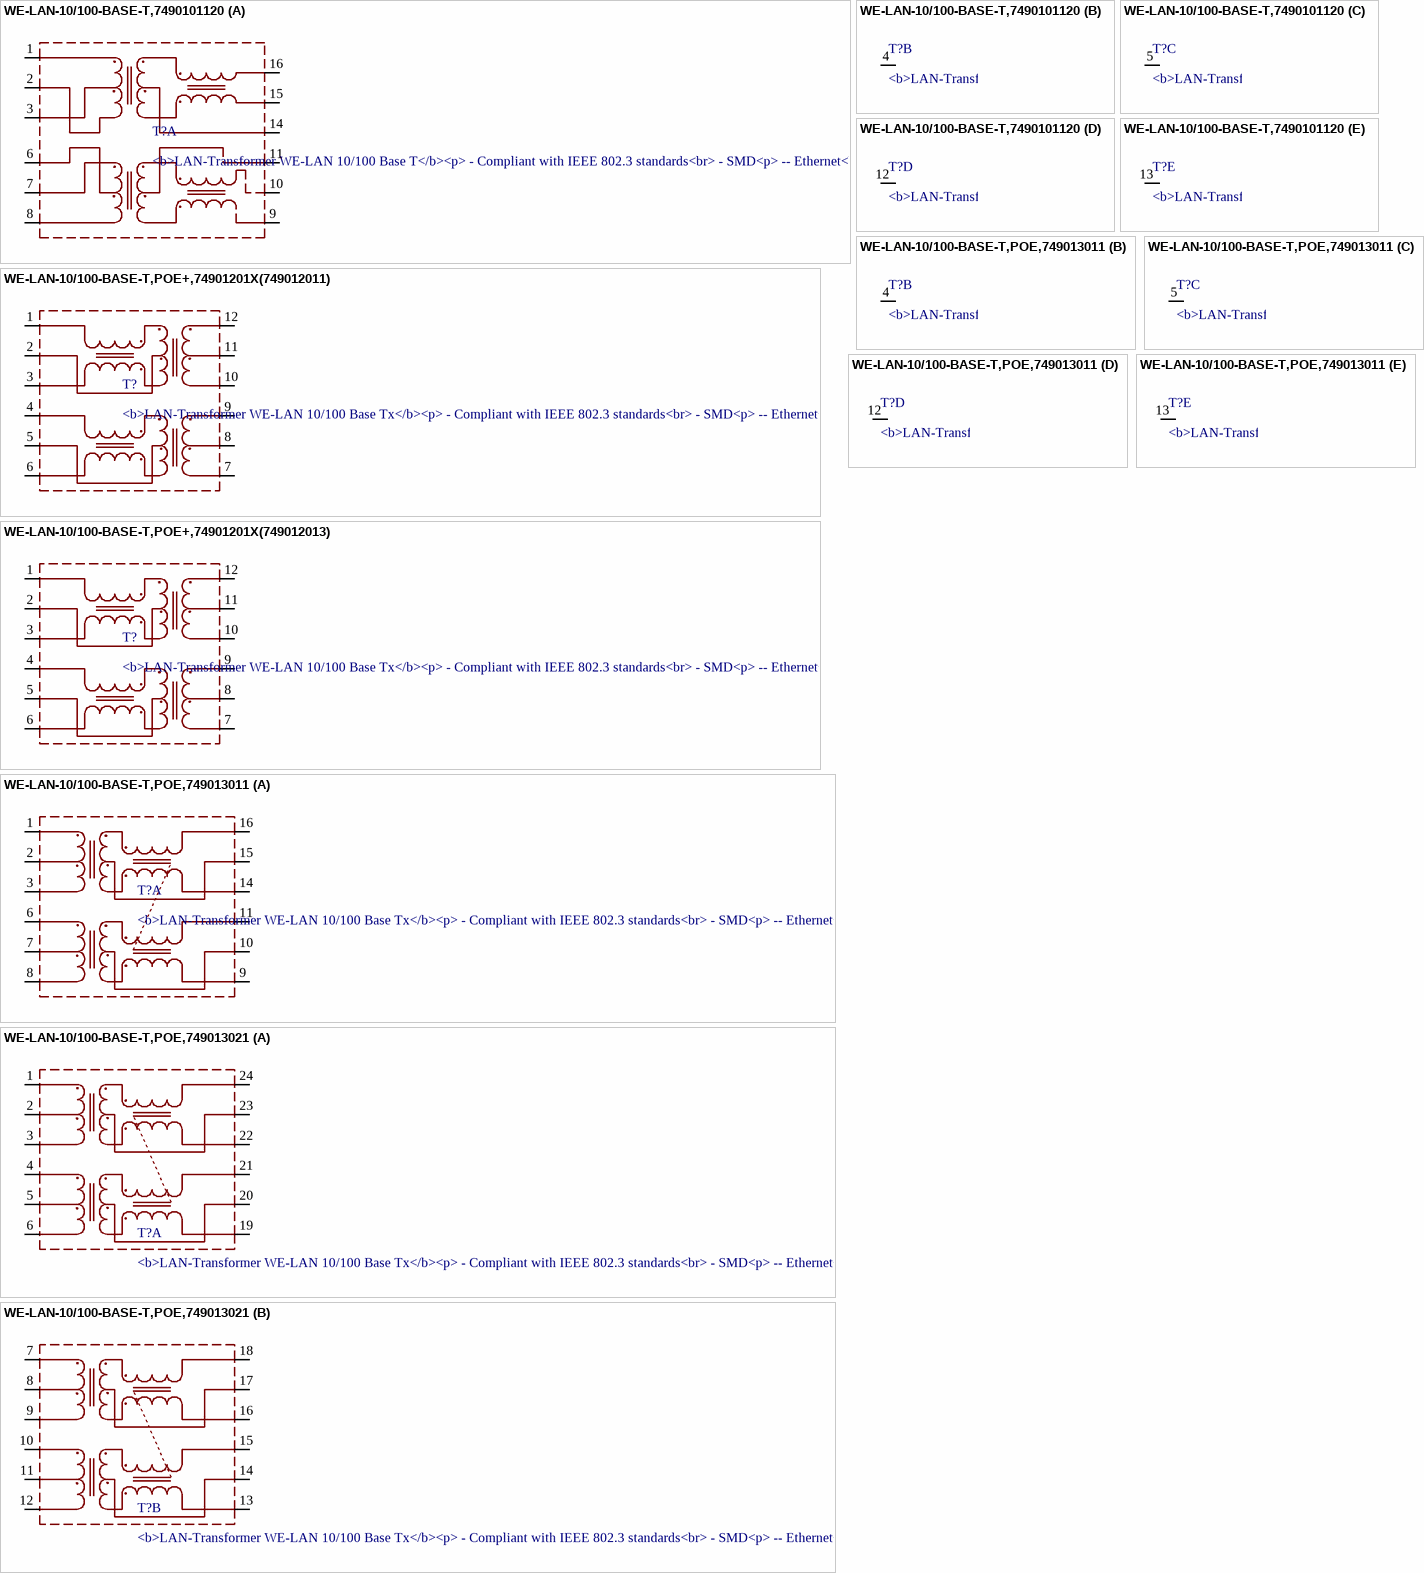
[diagram p12: symbols WE-LAN-10/100-BASE-T,7490101120 to WE-LAN-10/100-BASE-T,POE,749013021]

## WE-LAN-10/100-BASE-T,7490101120
designator T?, comment <b>LAN-Transformer WE-LAN 10/100 Base T</b><p> / - Compliant with IEEE 802.3 standards<br> / - SMD<p> / -- Ethernet<br> / -- Power over Ethernet<br> / -- 1 Gigabit Ethernet<br> / -- Compliant with most IC's for ethernet applications like Intel, AMD, Globespan and Realtek<br> / -- Hub, Router, Switch / <br><a href=http://katalog.we-online.de/media/images/eisos/UtLAN_pf2.jpg" title="Enlarge picture"> / <img src="http://katalog.we-online.de/media/images/eisos/UtLAN_pf2.jpg" width="320"></a><p> / Details see: <a href="http://katalog.we-online.de/en/pbs/WE-LAN/S/7490101120?">http://katalog.we-online.de/en/pbs/WE-LAN/S/7490101120?</a><p> / Updated by  Dan Xu 2014-07-08<br> / 2014 (C) Würth Elektronik
MANUFACTURER: Würth Elektronik eiSos GmbH; CREATED-BY: Christin Zierenner; COMPANY-URL: http://www.we-online.de; CREATED-DATE: June 2012; DATASHEET-URL: http://katalog.we-online.de/kataloge/eisos/media/pdf/7490101120.pdf
footprint 7490101120
part A pins: 1 RD+, 2 RD-, 3 CRD, 6 CTD, 7 TD+, 8 TD-, 9 TX-, 10 TX+, 11 CTX, 14 CRX, 15 RX-, 16 RX+
part B pins: 4 NC
part C pins: 5 NC
part D pins: 12 NC
part E pins: 13 NC

## WE-LAN-10/100-BASE-T,POE+,74901201X(749012011)
designator T?, comment <b>LAN-Transformer WE-LAN 10/100 Base Tx</b><p> / - Compliant with IEEE 802.3 standards<br> / - SMD<p> / -- Ethernet<br> / -- Power over Ethernet<br> / -- 1 Gigabit Ethernet<br> / -- Compliant with most IC's for ethernet applications like Intel, AMD, Globespan and Realtek<br> / -- Hub, Router, Switch / <br><a href=http://katalog.we-online.de/media/images/eisos/UtLAN_pf2.jpg" title="Enlarge picture"> / <img src="http://katalog.we-online.de/media/images/eisos/UtLAN_pf2.jpg" width="320"></a><p> / Details see: <a href="http://katalog.we-online.de/en/pbs/WE-LAN/S/7490120?">http://katalog.we-online.de/en/pbs/WE-LAN/S/7490120?</a><p> / Updated by  Dan Xu 2014-07-08<br> / 2014 (C) Würth Elektronik
MANUFACTURER: Würth Elektronik eiSos GmbH; CREATED-BY: Christin Zierenner; COMPANY-URL: http://www.we-online.de; CREATED-DATE: June 2012; DATASHEET-URL: http://katalog.we-online.de/kataloge/eisos/media/pdf/749012011.pdf
footprint 74901201X
pins: 1 RD+, 2 CRD, 3 RD-, 4 TD+, 5 CTD, 6 TD-, 7 TX-, 8 CTX, 9 TX+, 10 RX-, 11 CRX, 12 RX+

## WE-LAN-10/100-BASE-T,POE+,74901201X(749012013)
designator T?, comment <b>LAN-Transformer WE-LAN 10/100 Base Tx</b><p> / - Compliant with IEEE 802.3 standards<br> / - SMD<p> / -- Ethernet<br> / -- Power over Ethernet<br> / -- 1 Gigabit Ethernet<br> / -- Compliant with most IC's for ethernet applications like Intel, AMD, Globespan and Realtek<br> / -- Hub, Router, Switch / <br><a href=http://katalog.we-online.de/media/images/eisos/UtLAN_pf2.jpg" title="Enlarge picture"> / <img src="http://katalog.we-online.de/media/images/eisos/UtLAN_pf2.jpg" width="320"></a><p> / Details see: <a href="http://katalog.we-online.de/en/pbs/WE-LAN/S/7490120?">http://katalog.we-online.de/en/pbs/WE-LAN/S/7490120?</a><p> / Updated by  Dan Xu 2014-07-08<br> / 2014 (C) Würth Elektronik
MANUFACTURER: Würth Elektronik eiSos GmbH; CREATED-BY: Christin Zierenner; COMPANY-URL: http://www.we-online.de; CREATED-DATE: June 2012; DATASHEET-URL: http://katalog.we-online.de/kataloge/eisos/media/pdf/749012013.pdf
footprint 74901201X
pins: 1 RD+, 2 CRD, 3 RD-, 4 TD+, 5 CTD, 6 TD-, 7 TX-, 8 CTX, 9 TX+, 10 RX-, 11 CRX, 12 RX+

## WE-LAN-10/100-BASE-T,POE,749013011
designator T?, comment <b>LAN-Transformer WE-LAN 10/100 Base Tx</b><p> / - Compliant with IEEE 802.3 standards<br> / - SMD<p> / -- Ethernet<br> / -- Power over Ethernet<br> / -- 1 Gigabit Ethernet<br> / -- Compliant with most IC's for ethernet applications like Intel, AMD, Globespan and Realtek<br> / -- Hub, Router, Switch / <br><a href=http://katalog.we-online.de/media/images/eisos/UtLAN_pf2.jpg" title="Enlarge picture"> / <img src="http://katalog.we-online.de/media/images/eisos/UtLAN_pf2.jpg" width="320"></a><p> / Details see: <a href="http://katalog.we-online.de/en/pbs/WE-LAN/S/749013011?">http://katalog.we-online.de/en/pbs/WE-LAN/S/749013011?</a><p> / Updated by  Dan Xu 2014-07-08<br> / 2014 (C) Würth Elektronik
MANUFACTURER: Würth Elektronik eiSos GmbH; CREATED-BY: Christin Zierenner; COMPANY-URL: http://www.we-online.de; CREATED-DATE: June 2012; DATASHEET-URL: http://katalog.we-online.de/kataloge/eisos/media/pdf/749013011.pdf
footprint 749013011
part A pins: 1 TD+, 2 CTD, 3 TD-, 6 RD+, 7 CRD, 8 RD-, 9 RX-, 10 CRX, 11 RX+, 14 TX-, 15 CTX, 16 TX+
part B pins: 4 NC
part C pins: 5 NC
part D pins: 12 NC
part E pins: 13 NC

## WE-LAN-10/100-BASE-T,POE,749013021
designator T?, comment <b>LAN-Transformer WE-LAN 10/100 Base Tx</b><p> / - Compliant with IEEE 802.3 standards<br> / - SMD<p> / -- Ethernet<br> / -- Power over Ethernet<br> / -- 1 Gigabit Ethernet<br> / -- Compliant with most IC's for ethernet applications like Intel, AMD, Globespan and Realtek<br> / -- Hub, Router, Switch / <br><a href=http://katalog.we-online.de/media/images/eisos/UtLAN_pf2.jpg" title="Enlarge picture"> / <img src="http://katalog.we-online.de/media/images/eisos/UtLAN_pf2.jpg" width="320"></a><p> / Details see: <a href="http://katalog.we-online.de/en/pbs/WE-LAN/S/749013021?">http://katalog.we-online.de/en/pbs/WE-LAN/S/749013021?</a><p> / Updated by  Dan Xu 2014-07-08<br> / 2014 (C) Würth Elektronik
MANUFACTURER: Würth Elektronik eiSos GmbH; CREATED-BY: Christin Zierenner; COMPANY-URL: http://www.we-online.de; CREATED-DATE: June 2012; DATASHEET-URL: http://katalog.we-online.de/kataloge/eisos/media/pdf/749013021.pdf
footprint 749013021
part A pins: 1 RD1+, 2 RCT1, 3 RD1-, 4 TD1+, 5 TCT1, 6 TD1-, 19 TX1-, 20 TXCT1, 21 TX1+, 22 RX1-, 23 RXCT1, 24 RX1+
part B pins: 7 RD1+, 8 RCT1, 9 RD1-, 10 TD1+, 11 TCT1, 12 TD1-, 13 TX1-, 14 TXCT1, 15 TX1+, 16 RX1-, 17 RXCT1, 18 RX1+

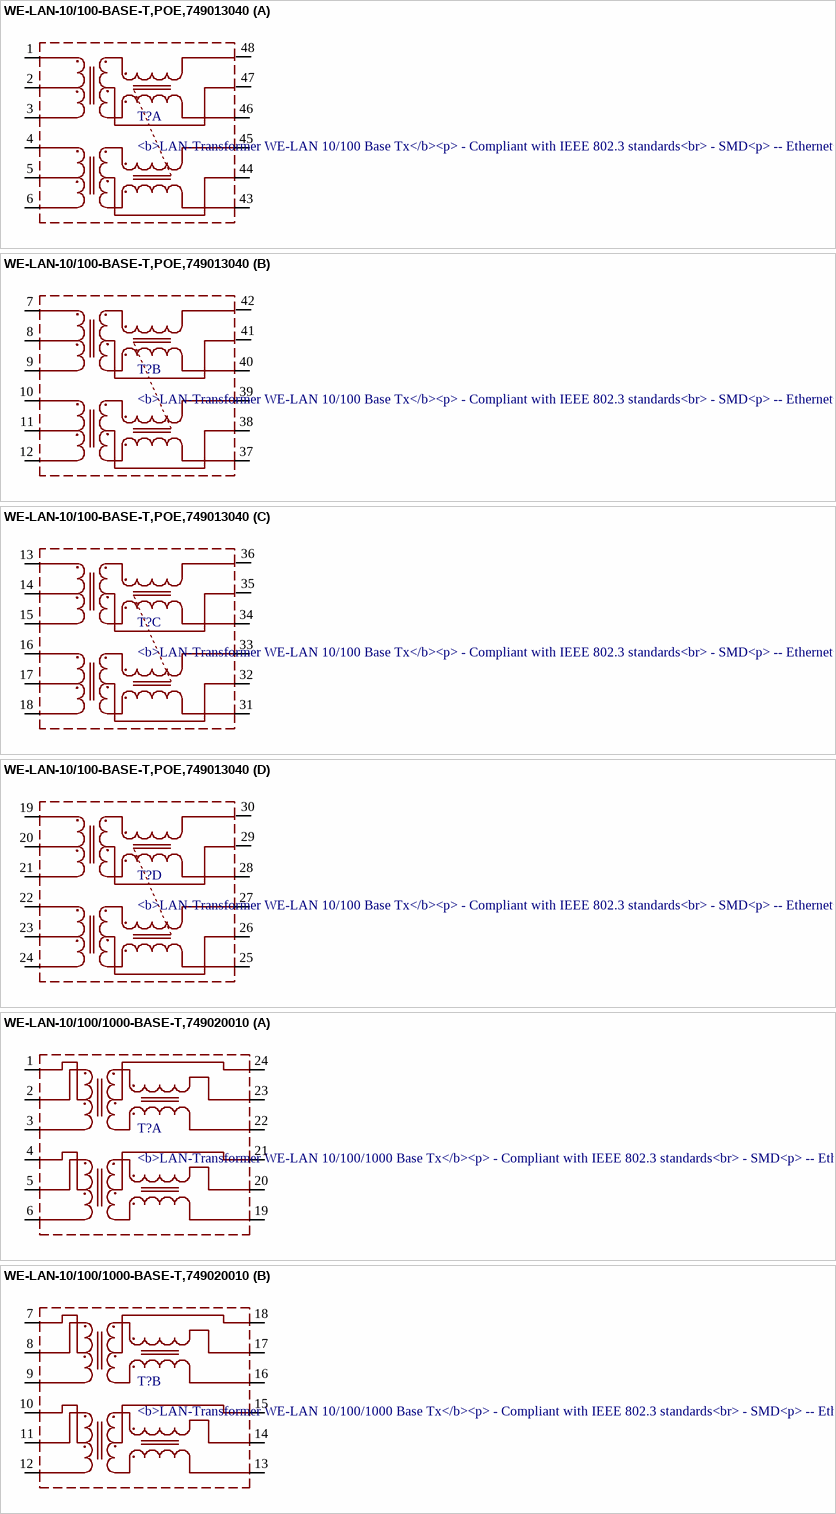
[diagram p13: symbols WE-LAN-10/100-BASE-T,POE,749013040 to WE-LAN-10/100/1000-BASE-T,749020010]

## WE-LAN-10/100-BASE-T,POE,749013040
designator T?, comment <b>LAN-Transformer WE-LAN 10/100 Base Tx</b><p> / - Compliant with IEEE 802.3 standards<br> / - SMD<p> / -- Ethernet<br> / -- Power over Ethernet<br> / -- 1 Gigabit Ethernet<br> / -- Compliant with most IC's for ethernet applications like Intel, AMD, Globespan and Realtek<br> / -- Hub, Router, Switch / <br><a href=http://katalog.we-online.de/media/images/eisos/UtLAN_pf2.jpg" title="Enlarge picture"> / <img src="http://katalog.we-online.de/media/images/eisos/UtLAN_pf2.jpg" width="320"></a><p> / Details see: <a href="http://katalog.we-online.de/en/pbs/WE-LAN/S/749013040?">http://katalog.we-online.de/en/pbs/WE-LAN/S/749013040?</a><p> / Updated by  Dan Xu 2014-07-08<br> / 2014 (C) Würth Elektronik
MANUFACTURER: Würth Elektronik eiSos GmbH; CREATED-BY: Christin Zierenner; COMPANY-URL: http://www.we-online.de; CREATED-DATE: June 2012; DATASHEET-URL: http://katalog.we-online.de/kataloge/eisos/media/pdf/749013040.pdf
footprint 749013040
part A pins: 1 RD1+, 2 RCT1, 3 RD1-, 4 TD1+, 5 TCT1, 6 TD1-, 43 TX1-, 44 CMT1, 45 TX1+, 46 RX1-, 47 CMR1, 48 RX1+
part B pins: 7 RD1+, 8 RCT1, 9 RD1-, 10 TD1+, 11 TCT1, 12 TD1-, 37 TX1-, 38 CMT1, 39 TX1+, 40 RX1-, 41 CMR1, 42 RX1+
part C pins: 13 RD1+, 14 RCT1, 15 RD1-, 16 TD1+, 17 TCT1, 18 TD1-, 31 TX1-, 32 CMT1, 33 TX1+, 34 RX1-, 35 CMR1, 36 RX1+
part D pins: 19 RD1+, 20 RCT1, 21 RD1-, 22 TD1+, 23 TCT1, 24 TD1-, 25 TX1-, 26 CMT1, 27 TX1+, 28 RX1-, 29 CMR1, 30 RX1+

## WE-LAN-10/100/1000-BASE-T,749020010
designator T?, comment <b>LAN-Transformer WE-LAN 10/100/1000 Base Tx</b><p> / - Compliant with IEEE 802.3 standards<br> / - SMD<p> / -- Ethernet<br> / -- Power over Ethernet<br> / -- 1 Gigabit Ethernet<br> / -- Compliant with most IC's for ethernet applications like Intel, AMD, Globespan and Realtek<br> / -- Hub, Router, Switch / <br><a href=http://katalog.we-online.de/media/images/eisos/UtLAN_pf2.jpg" title="Enlarge picture"> / <img src="http://katalog.we-online.de/media/images/eisos/UtLAN_pf2.jpg" width="320"></a><p> / Details see: <a href="http://katalog.we-online.de/en/pbs/WE-LAN/S/749020010?">http://katalog.we-online.de/en/pbs/WE-LAN/S/749020010?</a><p> / Updated by  Dan Xu 2014-07-08<br> / 2014 (C) Würth Elektronik
MANUFACTURER: Würth Elektronik eiSos GmbH; CREATED-BY: Christin Zierenner; COMPANY-URL: http://www.we-online.de; CREATED-DATE: June 2012; DATASHEET-URL: http://katalog.we-online.de/kataloge/eisos/media/pdf/749020010.pdf
footprint 749020010
part A pins: 1 TCT1, 2 TD1+, 3 TD1-, 4 TCT2, 5 TD2+, 6 TD2-, 19 MX2-, 20 MX2+, 21 MCT2, 22 MX1-, 23 MX1+, 24 MCT1
part B pins: 7 TCT1, 8 TD1+, 9 TD1-, 10 TCT2, 11 TD2+, 12 TD2-, 13 MX2-, 14 MX2+, 15 MCT2, 16 MX1-, 17 MX1+, 18 MCT1

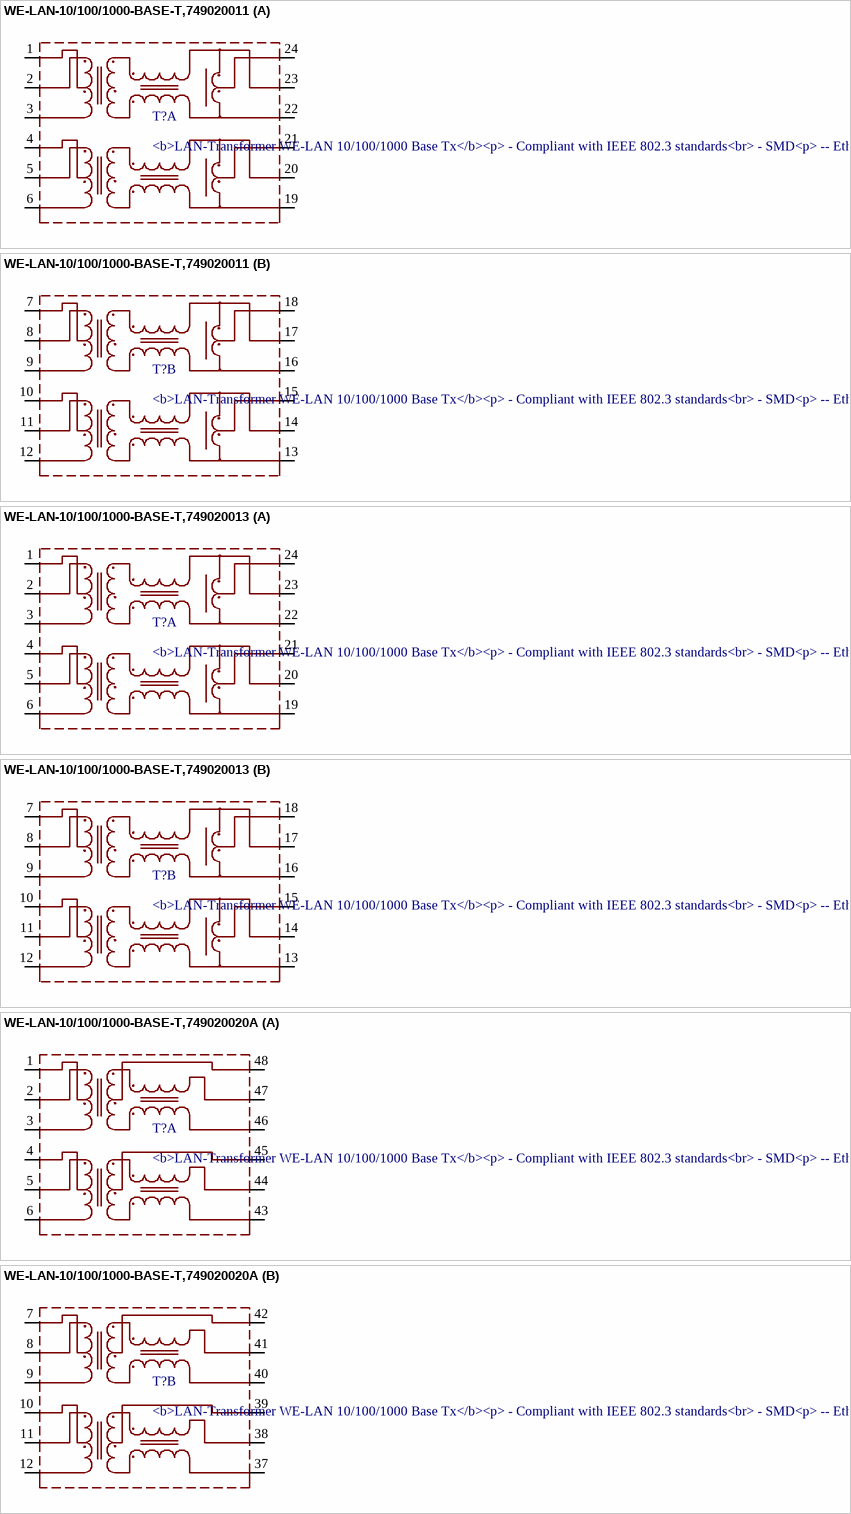
[diagram p14: symbols WE-LAN-10/100/1000-BASE-T,749020011 to WE-LAN-10/100/1000-BASE-T,749020020A]

## WE-LAN-10/100/1000-BASE-T,749020011
designator T?, comment <b>LAN-Transformer WE-LAN 10/100/1000 Base Tx</b><p> / - Compliant with IEEE 802.3 standards<br> / - SMD<p> / -- Ethernet<br> / -- Power over Ethernet<br> / -- 1 Gigabit Ethernet<br> / -- Compliant with most IC's for ethernet applications like Intel, AMD, Globespan and Realtek<br> / -- Hub, Router, Switch / <br><a href=http://katalog.we-online.de/media/images/eisos/UtLAN_pf2.jpg" title="Enlarge picture"> / <img src="http://katalog.we-online.de/media/images/eisos/UtLAN_pf2.jpg" width="320"></a><p> / Details see: <a href="http://katalog.we-online.de/en/pbs/WE-LAN/S/749020011?">http://katalog.we-online.de/en/pbs/WE-LAN/S/749020011?</a><p> / Updated by  Dan Xu 2014-07-08<br> / 2014 (C) Würth Elektronik
MANUFACTURER: Würth Elektronik eiSos GmbH; CREATED-BY: Christin Zierenner; COMPANY-URL: http://www.we-online.de; CREATED-DATE: June 2012; DATASHEET-URL: http://katalog.we-online.de/kataloge/eisos/media/pdf/749020011.pdf
footprint 749020011
part A pins: 1 TCT1, 2 TD1+, 3 TD1-, 4 TCT2, 5 TD2+, 6 TD2-, 19 MX2-, 20 MX2+, 21 MCT2, 22 MX1-, 23 MX1+, 24 MCT1
part B pins: 7 TCT1, 8 TD1+, 9 TD1-, 10 TCT2, 11 TD2+, 12 TD2-, 13 MX2-, 14 MX2+, 15 MCT2, 16 MX1-, 17 MX1+, 18 MCT1

## WE-LAN-10/100/1000-BASE-T,749020013
designator T?, comment <b>LAN-Transformer WE-LAN 10/100/1000 Base Tx</b><p> / - Compliant with IEEE 802.3 standards<br> / - SMD<p> / -- Ethernet<br> / -- Power over Ethernet<br> / -- 1 Gigabit Ethernet<br> / -- Compliant with most IC's for ethernet applications like Intel, AMD, Globespan and Realtek<br> / -- Hub, Router, Switch / <br><a href=http://katalog.we-online.de/media/images/eisos/UtLAN_pf2.jpg" title="Enlarge picture"> / <img src="http://katalog.we-online.de/media/images/eisos/UtLAN_pf2.jpg" width="320"></a><p> / Details see: <a href="http://katalog.we-online.de/en/pbs/WE-LAN/S/749020013?">http://katalog.we-online.de/en/pbs/WE-LAN/S/749020013?</a><p> / Updated by  Dan Xu 2014-07-08<br> / 2014 (C) Würth Elektronik
MANUFACTURER: Würth Elektronik eiSos GmbH; CREATED-BY: Christin Zierenner; COMPANY-URL: http://www.we-online.de; CREATED-DATE: June 2012; DATASHEET-URL: http://katalog.we-online.de/kataloge/eisos/media/pdf/749020013.pdf
footprint 749020013
part A pins: 1 TD1, 2 D1+, 3 D1-, 4 TD2, 5 D2+, 6 D2-, 19 X2-, 20 X2+, 21 TX2, 22 X1-, 23 X1+, 24 TX1
part B pins: 7 TD1, 8 D1+, 9 D1-, 10 TD2, 11 D2+, 12 D2-, 13 X2-, 14 X2+, 15 TX2, 16 X1-, 17 X1+, 18 TX1

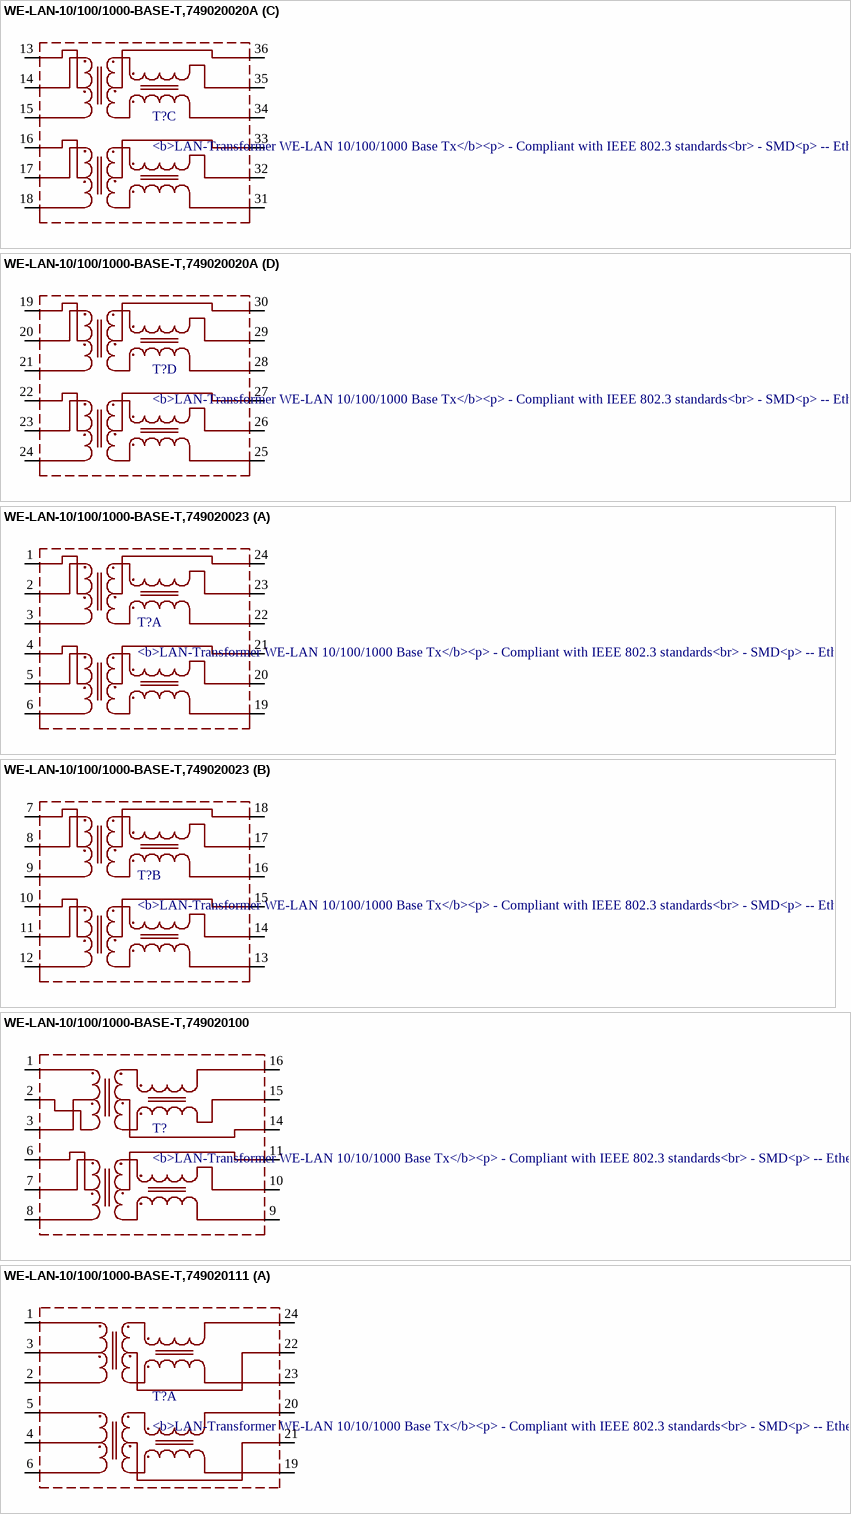
[diagram p15: symbols WE-LAN-10/100/1000-BASE-T,749020020A to WE-LAN-10/100/1000-BASE-T,749020111]

## WE-LAN-10/100/1000-BASE-T,749020020A
designator T?, comment <b>LAN-Transformer WE-LAN 10/100/1000 Base Tx</b><p> / - Compliant with IEEE 802.3 standards<br> / - SMD<p> / -- Ethernet<br> / -- Power over Ethernet<br> / -- 1 Gigabit Ethernet<br> / -- Compliant with most IC's for ethernet applications like Intel, AMD, Globespan and Realtek<br> / -- Hub, Router, Switch / <br><a href=http://katalog.we-online.de/media/images/eisos/UtLAN_pf2.jpg" title="Enlarge picture"> / <img src="http://katalog.we-online.de/media/images/eisos/UtLAN_pf2.jpg" width="320"></a><p> / Details see: <a href="http://katalog.we-online.de/en/pbs/WE-LAN/S/749020020A?">http://katalog.we-online.de/en/pbs/WE-LAN/S/749020020A?</a><p> / Updated by  Dan Xu 2014-07-08<br> / 2014 (C) Würth Elektronik
MANUFACTURER: Würth Elektronik eiSos GmbH; CREATED-BY: Christin Zierenner; COMPANY-URL: http://www.we-online.de; CREATED-DATE: June 2012; DATASHEET-URL: http://katalog.we-online.de/kataloge/eisos/media/pdf/749020020A.pdf
footprint 749020020A
part A pins: 1 TCT1, 2 TD1+, 3 TD1-, 4 TCT2, 5 TD2+, 6 TD2-, 43 MX2-, 44 MX2+, 45 MCT2, 46 MX1-, 47 MX1+, 48 MCT1
part B pins: 7 TCT1, 8 TD1+, 9 TD1-, 10 TCT2, 11 TD2+, 12 TD2-, 37 MX2-, 38 MX2+, 39 MCT2, 40 MX1-, 41 MX1+, 42 MCT1
part C pins: 13 TCT1, 14 TD1+, 15 TD1-, 16 TCT2, 17 TD2+, 18 TD2-, 31 MX2-, 32 MX2+, 33 MCT2, 34 MX1-, 35 MX1+, 36 MCT1
part D pins: 19 TCT1, 20 TD1+, 21 TD1-, 22 TCT2, 23 TD2+, 24 TD2-, 25 MX2-, 26 MX2+, 27 MCT2, 28 MX1-, 29 MX1+, 30 MCT1

## WE-LAN-10/100/1000-BASE-T,749020023
designator T?, comment <b>LAN-Transformer WE-LAN 10/100/1000 Base Tx</b><p> / - Compliant with IEEE 802.3 standards<br> / - SMD<p> / -- Ethernet<br> / -- Power over Ethernet<br> / -- 1 Gigabit Ethernet<br> / -- Compliant with most IC's for ethernet applications like Intel, AMD, Globespan and Realtek<br> / -- Hub, Router, Switch / <br><a href=http://katalog.we-online.de/media/images/eisos/UtLAN_pf2.jpg" title="Enlarge picture"> / <img src="http://katalog.we-online.de/media/images/eisos/UtLAN_pf2.jpg" width="320"></a><p> / Details see: <a href="http://katalog.we-online.de/en/pbs/WE-LAN/S/749020023?">http://katalog.we-online.de/en/pbs/WE-LAN/S/749020023?</a><p> / Updated by  Dan Xu 2014-07-08<br> / 2014 (C) Würth Elektronik
MANUFACTURER: Würth Elektronik eiSos GmbH; CREATED-BY: Christin Zierenner; COMPANY-URL: http://www.we-online.de; CREATED-DATE: June 2012; DATASHEET-URL: http://katalog.we-online.de/kataloge/eisos/media/pdf/749020023.pdf
footprint 749020023
part A pins: 1 TCT1, 2 TD1+, 3 TD1-, 4 TCT2, 5 TD2+, 6 TD2-, 19 MX2-, 20 MX2+, 21 MCT2, 22 MX1-, 23 MX1+, 24 MCT1
part B pins: 7 TCT1, 8 TD1+, 9 TD1-, 10 TCT2, 11 TD2+, 12 TD2-, 13 MX2-, 14 MX2+, 15 MCT2, 16 MX1-, 17 MX1+, 18 MCT1

## WE-LAN-10/100/1000-BASE-T,749020100
designator T?, comment <b>LAN-Transformer WE-LAN 10/10/1000 Base Tx</b><p> / - Compliant with IEEE 802.3 standards<br> / - SMD<p> / -- Ethernet<br> / -- Power over Ethernet<br> / -- 1 Gigabit Ethernet<br> / -- Compliant with most IC's for ethernet applications like Intel, AMD, Globespan and Realtek<br> / -- Hub, Router, Switch / <br><a href=http://katalog.we-online.de/media/images/eisos/UtLAN_pf2.jpg" title="Enlarge picture"> / <img src="http://katalog.we-online.de/media/images/eisos/UtLAN_pf2.jpg" width="320"></a><p> / Details see: <a href="http://katalog.we-online.de/en/pbs/WE-LAN/S/749020100?">http://katalog.we-online.de/en/pbs/WE-LAN/S/749020100?</a><p> / Updated by  Dan Xu 2014-07-08<br> / 2014 (C) Würth Elektronik
MANUFACTURER: Würth Elektronik eiSos GmbH; CREATED-BY: Christin Zierenner; COMPANY-URL: http://www.we-online.de; CREATED-DATE: June 2012; DATASHEET-URL: http://katalog.we-online.de/kataloge/eisos/media/pdf/749020100.pdf
footprint 749020100
pins: 1 D+, 2 D-, 3 TD1, 6 TD2, 7 D1+, 8 D1-, 9 X1-, 10 X1+, 11 TX1, 14 TX, 15 X-, 16 X+

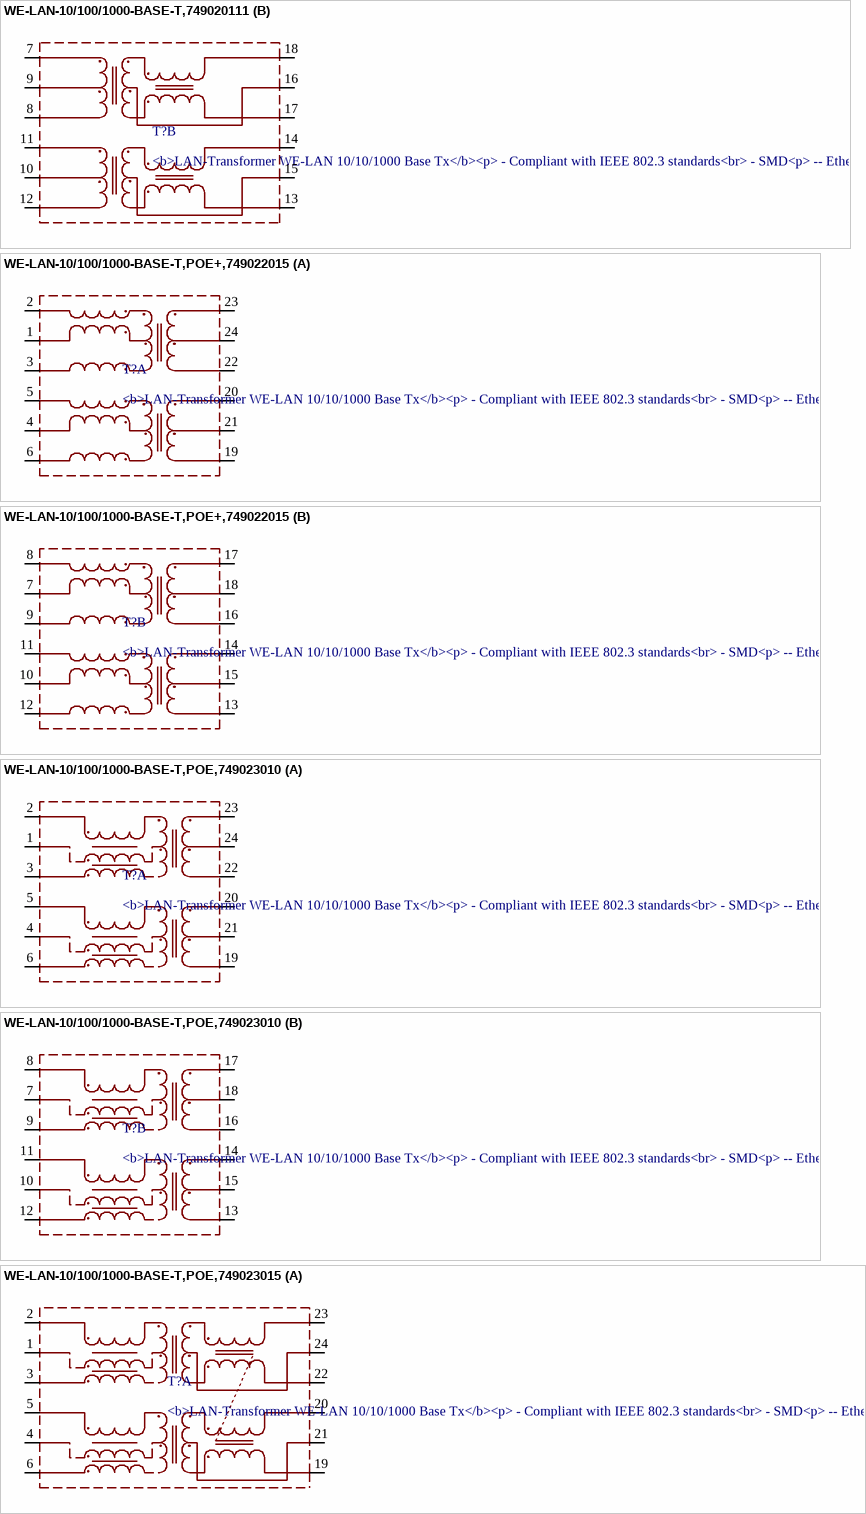
[diagram p16: symbols WE-LAN-10/100/1000-BASE-T,749020111 to WE-LAN-10/100/1000-BASE-T,POE,749023015]

## WE-LAN-10/100/1000-BASE-T,749020111
designator T?, comment <b>LAN-Transformer WE-LAN 10/10/1000 Base Tx</b><p> / - Compliant with IEEE 802.3 standards<br> / - SMD<p> / -- Ethernet<br> / -- Power over Ethernet<br> / -- 1 Gigabit Ethernet<br> / -- Compliant with most IC's for ethernet applications like Intel, AMD, Globespan and Realtek<br> / -- Hub, Router, Switch / <br><a href=http://katalog.we-online.de/media/images/eisos/UtLAN_pf2.jpg" title="Enlarge picture"> / <img src="http://katalog.we-online.de/media/images/eisos/UtLAN_pf2.jpg" width="320"></a><p> / Details see: <a href="http://katalog.we-online.de/en/pbs/WE-LAN/S/749020111?">http://katalog.we-online.de/en/pbs/WE-LAN/S/749020111?</a><p> / Updated by  Dan Xu 2014-07-08<br> / 2014 (C) Würth Elektronik
MANUFACTURER: Würth Elektronik eiSos GmbH; CREATED-BY: Christin Zierenner; COMPANY-URL: http://www.we-online.de; CREATED-DATE: June 2012; DATASHEET-URL: http://katalog.we-online.de/kataloge/eisos/media/pdf/749020111.pdf
footprint 749020111
part A pins: 1 D1-, 2 D1A-, 3 TD1, 4 TD2, 5 D2-, 6 D2A-, 19 X2A-, 20 X2-, 21 TX2, 22 TX1, 23 X1A-, 24 X1-
part B pins: 7 D1-, 8 D1A-, 9 TD1, 10 TD2, 11 D2-, 12 D2A-, 13 X2A-, 14 X2-, 15 TX2, 16 TX1, 17 X1A-, 18 X1-

## WE-LAN-10/100/1000-BASE-T,POE+,749022015
designator T?, comment <b>LAN-Transformer WE-LAN 10/10/1000 Base Tx</b><p> / - Compliant with IEEE 802.3 standards<br> / - SMD<p> / -- Ethernet<br> / -- Power over Ethernet<br> / -- 1 Gigabit Ethernet<br> / -- Compliant with most IC's for ethernet applications like Intel, AMD, Globespan and Realtek<br> / -- Hub, Router, Switch / <br><a href=http://katalog.we-online.de/media/images/eisos/UtLAN_pf2.jpg" title="Enlarge picture"> / <img src="http://katalog.we-online.de/media/images/eisos/UtLAN_pf2.jpg" width="320"></a><p> / Details see: <a href="http://katalog.we-online.de/en/pbs/WE-LAN/S/749022015?">http://katalog.we-online.de/en/pbs/WE-LAN/S/749022015?</a><p> / Updated by  Dan Xu 2014-07-08<br> / 2014 (C) Würth Elektronik
MANUFACTURER: Würth Elektronik eiSos GmbH; CREATED-BY: Christin Zierenner; COMPANY-URL: http://www.we-online.de; CREATED-DATE: June 2012; DATASHEET-URL: http://katalog.we-online.de/kataloge/eisos/media/pdf/749022015.pdf
footprint 749022015
part A pins: 1 TD1, 2 D1-, 3 D1A-, 4 TD2, 5 D2-, 6 D2A-, 19 X2A-, 20 X2-, 21 TX2, 22 X1A-, 23 X1-, 24 TX1
part B pins: 7 TD1, 8 D1-, 9 D1A-, 10 TD2, 11 D2-, 12 D2A-, 13 X2A-, 14 X2-, 15 TX2, 16 X1A-, 17 X1-, 18 TX1

## WE-LAN-10/100/1000-BASE-T,POE,749023010
designator T?, comment <b>LAN-Transformer WE-LAN 10/10/1000 Base Tx</b><p> / - Compliant with IEEE 802.3 standards<br> / - SMD<p> / -- Ethernet<br> / -- Power over Ethernet<br> / -- 1 Gigabit Ethernet<br> / -- Compliant with most IC's for ethernet applications like Intel, AMD, Globespan and Realtek<br> / -- Hub, Router, Switch / <br><a href=http://katalog.we-online.de/media/images/eisos/UtLAN_pf2.jpg" title="Enlarge picture"> / <img src="http://katalog.we-online.de/media/images/eisos/UtLAN_pf2.jpg" width="320"></a><p> / Details see: <a href="http://katalog.we-online.de/en/pbs/WE-LAN/S/749023010?">http://katalog.we-online.de/en/pbs/WE-LAN/S/749023010?</a><p> / Updated by  Dan Xu 2014-07-08<br> / 2014 (C) Würth Elektronik
MANUFACTURER: Würth Elektronik eiSos GmbH; CREATED-BY: Christin Zierenner; COMPANY-URL: http://www.we-online.de; CREATED-DATE: June 2012; DATASHEET-URL: http://katalog.we-online.de/kataloge/eisos/media/pdf/749023010.pdf
footprint 749023010
part A pins: 1 TCT1, 2 TD1+, 3 TD1-, 4 TCT2, 5 TD2+, 6 TD2-, 19 MX2-, 20 MX2+, 21 MCT2, 22 MX1-, 23 MX1+, 24 MCT1
part B pins: 7 TCT1, 8 TD1+, 9 TD1-, 10 TCT2, 11 TD2+, 12 TD2-, 13 MX2-, 14 MX2+, 15 MCT2, 16 MX1-, 17 MX1+, 18 MCT1

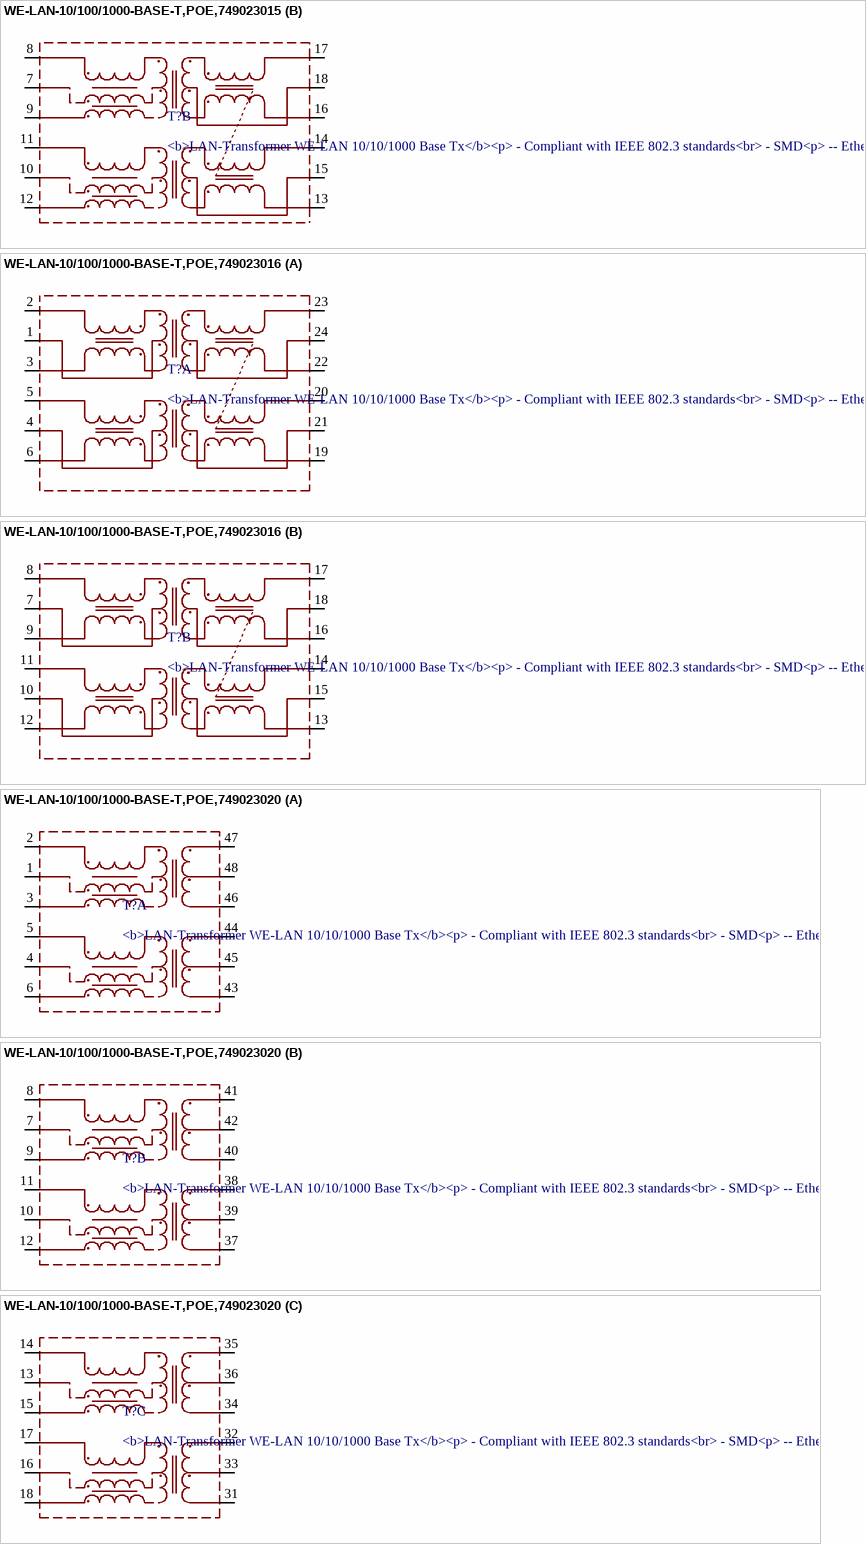
[diagram p17: symbols WE-LAN-10/100/1000-BASE-T,POE,749023015 to WE-LAN-10/100/1000-BASE-T,POE,749023020]

## WE-LAN-10/100/1000-BASE-T,POE,749023015
designator T?, comment <b>LAN-Transformer WE-LAN 10/10/1000 Base Tx</b><p> / - Compliant with IEEE 802.3 standards<br> / - SMD<p> / -- Ethernet<br> / -- Power over Ethernet<br> / -- 1 Gigabit Ethernet<br> / -- Compliant with most IC's for ethernet applications like Intel, AMD, Globespan and Realtek<br> / -- Hub, Router, Switch / <br><a href=http://katalog.we-online.de/media/images/eisos/UtLAN_pf2.jpg" title="Enlarge picture"> / <img src="http://katalog.we-online.de/media/images/eisos/UtLAN_pf2.jpg" width="320"></a><p> / Details see: <a href="http://katalog.we-online.de/en/pbs/WE-LAN/S/749023015?">http://katalog.we-online.de/en/pbs/WE-LAN/S/749023015?</a><p> / Updated by  Dan Xu 2014-07-08<br> / 2014 (C) Würth Elektronik
MANUFACTURER: Würth Elektronik eiSos GmbH; CREATED-BY: Christin Zierenner; COMPANY-URL: http://www.we-online.de; CREATED-DATE: June 2012; DATASHEET-URL: http://katalog.we-online.de/kataloge/eisos/media/pdf/749023015.pdf
footprint 749023015
part A pins: 1 TD1, 2 D1+, 3 D1-, 4 TD2, 5 D2+, 6 D2-, 19 X2-, 20 X2+, 21 TX2, 22 X1-, 23 X1+, 24 TX1
part B pins: 7 TD1, 8 D1+, 9 D1-, 10 TD2, 11 D2+, 12 D2-, 13 X2-, 14 X2+, 15 TX2, 16 X1-, 17 X1+, 18 TX1

## WE-LAN-10/100/1000-BASE-T,POE,749023016
designator T?, comment <b>LAN-Transformer WE-LAN 10/10/1000 Base Tx</b><p> / - Compliant with IEEE 802.3 standards<br> / - SMD<p> / -- Ethernet<br> / -- Power over Ethernet<br> / -- 1 Gigabit Ethernet<br> / -- Compliant with most IC's for ethernet applications like Intel, AMD, Globespan and Realtek<br> / -- Hub, Router, Switch / <br><a href=http://katalog.we-online.de/media/images/eisos/UtLAN_pf2.jpg" title="Enlarge picture"> / <img src="http://katalog.we-online.de/media/images/eisos/UtLAN_pf2.jpg" width="320"></a><p> / Details see: <a href="http://katalog.we-online.de/en/pbs/WE-LAN/S/749023016?">http://katalog.we-online.de/en/pbs/WE-LAN/S/749023016?</a><p> / Updated by  Dan Xu 2014-07-08<br> / 2014 (C) Würth Elektronik
MANUFACTURER: Würth Elektronik eiSos GmbH; CREATED-BY: Christin Zierenner; COMPANY-URL: http://www.we-online.de; CREATED-DATE: June 2012; DATASHEET-URL: http://katalog.we-online.de/kataloge/eisos/media/pdf/749023016.pdf
footprint 749023016
part A pins: 1 TD1, 2 D1+, 3 D1-, 4 TD2, 5 D2+, 6 D2-, 19 X2-, 20 X2+, 21 TX2, 22 X1-, 23 X1+, 24 TX1
part B pins: 7 TD1, 8 D1+, 9 D1-, 10 TD2, 11 D2+, 12 D2-, 13 X2-, 14 X2+, 15 TX2, 16 X1-, 17 X1+, 18 TX1

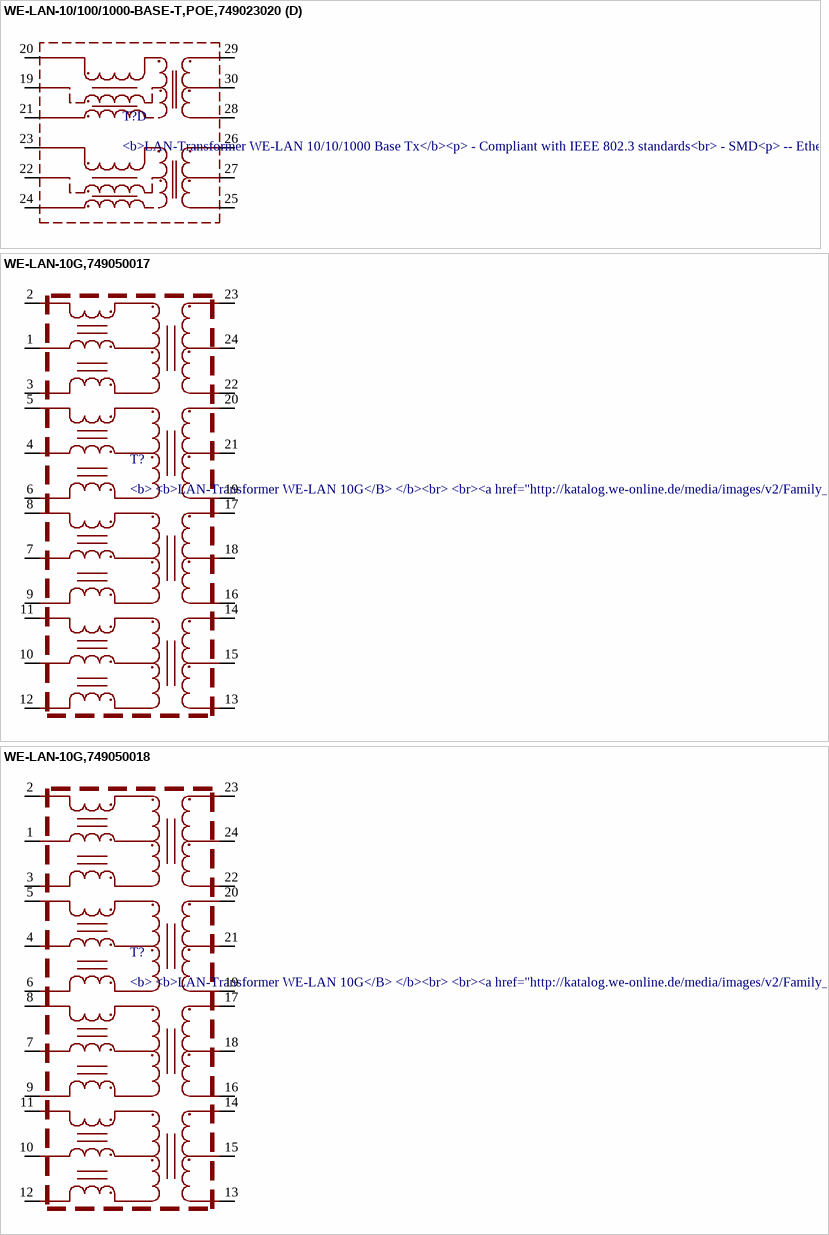
[diagram p18: symbols WE-LAN-10/100/1000-BASE-T,POE,749023020 to WE-LAN-10G,749050018]

## WE-LAN-10/100/1000-BASE-T,POE,749023020
designator T?, comment <b>LAN-Transformer WE-LAN 10/10/1000 Base Tx</b><p> / - Compliant with IEEE 802.3 standards<br> / - SMD<p> / -- Ethernet<br> / -- Power over Ethernet<br> / -- 1 Gigabit Ethernet<br> / -- Compliant with most IC's for ethernet applications like Intel, AMD, Globespan and Realtek<br> / -- Hub, Router, Switch / <br><a href=http://katalog.we-online.de/media/images/eisos/UtLAN_pf2.jpg" title="Enlarge picture"> / <img src="http://katalog.we-online.de/media/images/eisos/UtLAN_pf2.jpg" width="320"></a><p> / Details see: <a href="http://katalog.we-online.de/en/pbs/WE-LAN/S/749023020?">http://katalog.we-online.de/en/pbs/WE-LAN/S/749023020?</a><p> / Updated by  Dan Xu 2014-07-08<br> / 2014 (C) Würth Elektronik
MANUFACTURER: Würth Elektronik eiSos GmbH; CREATED-BY: Christin Zierenner; COMPANY-URL: http://www.we-online.de; CREATED-DATE: June 2012; DATASHEET-URL: http://katalog.we-online.de/kataloge/eisos/media/pdf/749023020.pdf
footprint 749023020
part A pins: 1 TCT1, 2 TD1+, 3 TD1-, 4 TCT2, 5 TD2+, 6 TD2-, 43 MX2-, 44 MX2+, 45 MCT2, 46 MX1-, 47 MX1+, 48 MCT1
part B pins: 7 TCT1, 8 TD1+, 9 TD1-, 10 TCT2, 11 TD2+, 12 TD2-, 37 MX2-, 38 MX2+, 39 MCT2, 40 MX1-, 41 MX1+, 42 MCT1
part C pins: 13 TCT1, 14 TD1+, 15 TD1-, 16 TCT2, 17 TD2+, 18 TD2-, 31 MX2-, 32 MX2+, 33 MCT2, 34 MX1-, 35 MX1+, 36 MCT1
part D pins: 19 TCT1, 20 TD1+, 21 TD1-, 22 TCT2, 23 TD2+, 24 TD2-, 25 MX2-, 26 MX2+, 27 MCT2, 28 MX1-, 29 MX1+, 30 MCT1

## WE-LAN-10G,749050017
designator T?, comment <b> / <b>LAN-Transformer WE-LAN 10G</B> / </b><br> / <br><a href="http://katalog.we-online.de/media/images/v2/Family_WE-LAN.jpg" title="Enlarge picture"> / <img src="http://katalog.we-online.de/media/images/v2/Family_WE-LAN.jpg"  width="320"></a><p> / </b><br> / Details see: <a href="http://katalog.we-online.de/en/pbs/WE-LAN/749050017?m">http://katalog.we-online.de/en/pbs/WE-LAN/749050017?m</a><p> / <b><br> / <br> / 2015 (C) Würth Elektronik
footprint WE-LAN10G:0.99MM
pins: 1 TCT1, 2 TD1+, 3 TD1-, 4 TCT2, 5 TD2+, 6 TD2-, 7 TCT3, 8 TD3+, 9 TD3-, 10 TCT4, 11 TD4+, 12 TD4-, 13 MX4-, 14 MX4+, 15 MCT4, 16 MX3-, 17 MX3+, 18 MCT3, 19 MX2-, 20 MX2+, 21 MCT2, 22 MX1-, 23 MX1+, 24 MCT1